# Altium schematic symbol library MCU_ST_STM32F1.SchLib: 178 symbols (part 3 of 5)
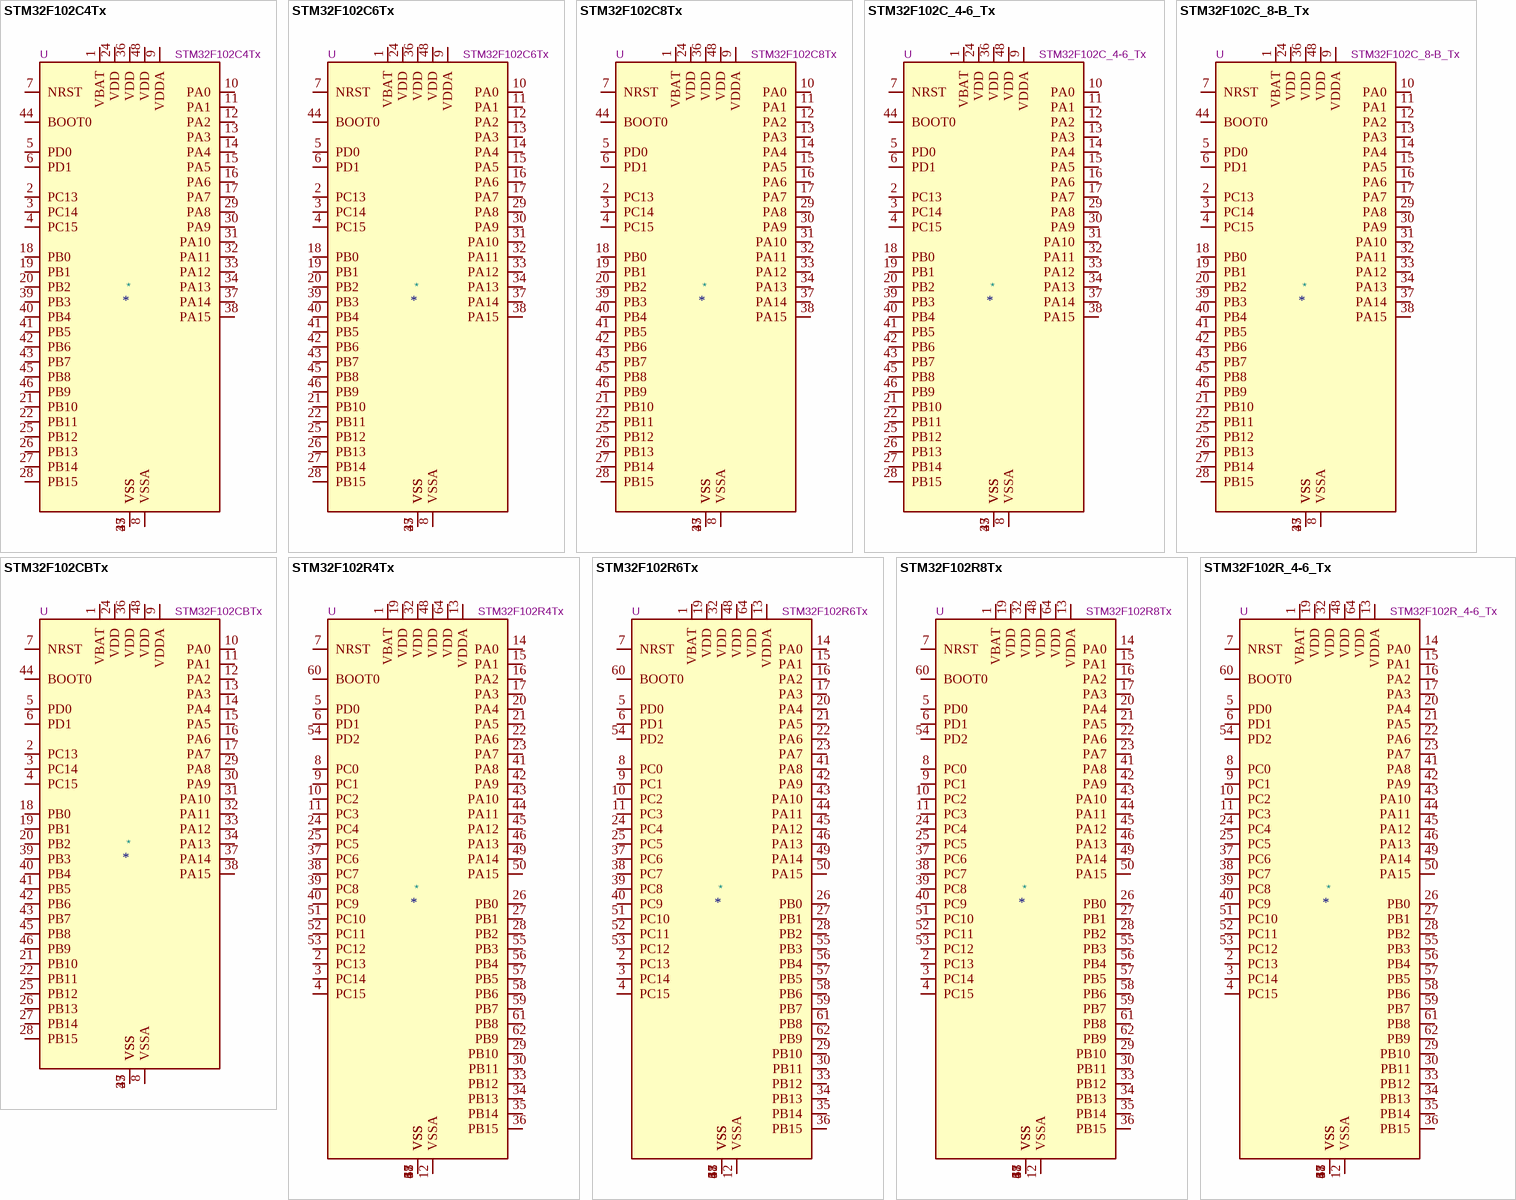
[diagram p32: symbols STM32F102C4Tx to STM32F102R_4-6_Tx]

## STM32F102R_4-6_Tx
designator *  value STM32F102R_4-6_Tx  Reference: U
STMicroelectronics Arm Cortex-M3 MCU, 16-32KB flash, 4-6KB RAM, 48 MHz, 2.0-3.6V, 51 GPIO, LQFP64; ki_keywords: Arm Cortex-M3 STM32F1 STM32F102; ki_fp_filters: LQFP*10x10mm*P0.5mm*; Footprint: Package_QFP:LQFP-64_10x10mm_P0.5mm; Datasheet: https://www.st.com/resource/en/datasheet/stm32f102r4.pdf; Description_: STMicroelectronics Arm Cortex-M3 MCU, 16-32KB flash, 4-6KB RAM, 48 MHz, 2.0-3.6V, 51 GPIO, LQFP64
pins: 1 VBAT, 2 PC13, 3 PC14, 4 PC15, 5 PD0, 6 PD1, 7 NRST, 8 PC0, 9 PC1, 10 PC2, 11 PC3, 12 VSSA, 13 VDDA, 14 PA0, 15 PA1, 16 PA2, 17 PA3, 18 VSS, 19 VDD, 20 PA4, 21 PA5, 22 PA6, 23 PA7, 24 PC4, 25 PC5, 26 PB0, 27 PB1, 28 PB2, 29 PB10, 30 PB11, 31 VSS, 32 VDD, 33 PB12, 34 PB13, 35 PB14, 36 PB15, 37 PC6, 38 PC7, 39 PC8, 40 PC9, 41 PA8, 42 PA9, 43 PA10, 44 PA11, 45 PA12, 46 PA13, 47 VSS, 48 VDD, 49 PA14, 50 PA15, 51 PC10, 52 PC11, 53 PC12, 54 PD2, 55 PB3, 56 PB4, 57 PB5, 58 PB6, 59 PB7, 60 BOOT0, 61 PB8, 62 PB9, 63 VSS, 64 VDD

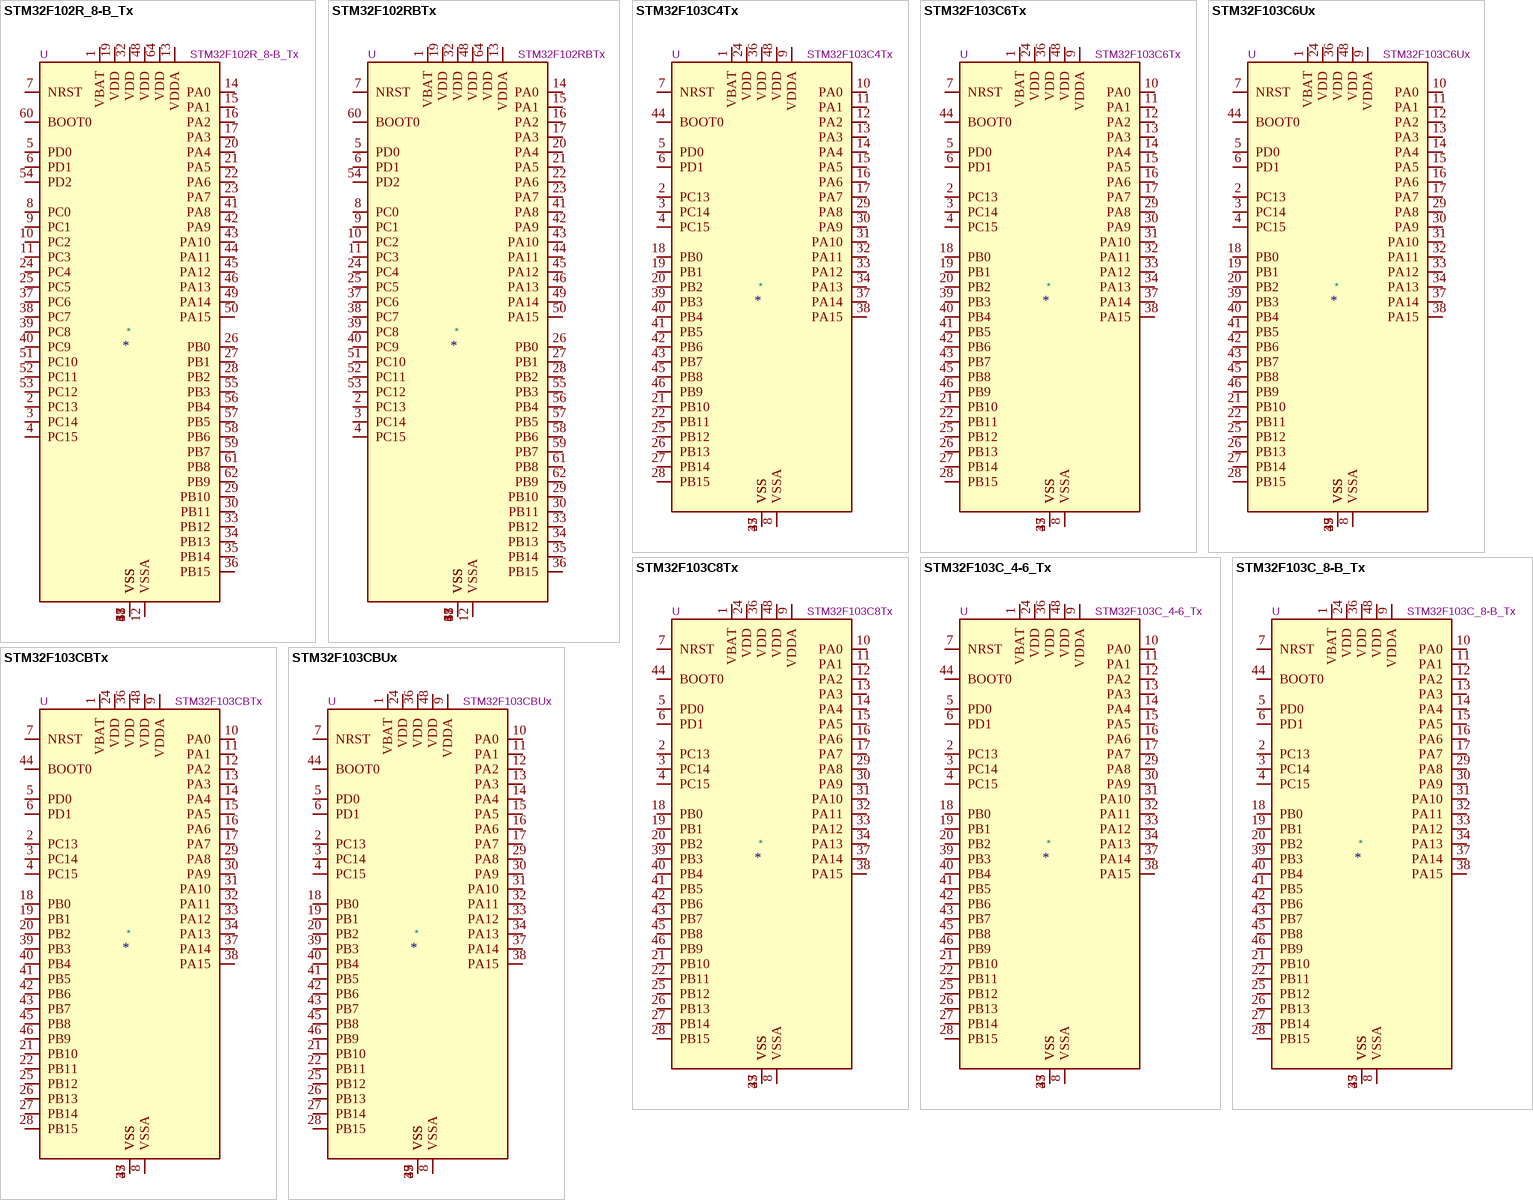
[diagram p14: symbols STM32F102R_8-B_Tx to STM32F103CBUx]

## STM32F102R_8-B_Tx
designator *  value STM32F102R_8-B_Tx  Reference: U
STMicroelectronics Arm Cortex-M3 MCU, 64-128KB flash, 10-16KB RAM, 48 MHz, 2.0-3.6V, 51 GPIO, LQFP64; ki_keywords: Arm Cortex-M3 STM32F1 STM32F102; ki_fp_filters: LQFP*10x10mm*P0.5mm*; Footprint: Package_QFP:LQFP-64_10x10mm_P0.5mm; Datasheet: https://www.st.com/resource/en/datasheet/stm32f102r8.pdf; Description_: STMicroelectronics Arm Cortex-M3 MCU, 64-128KB flash, 10-16KB RAM, 48 MHz, 2.0-3.6V, 51 GPIO, LQFP64
pins: 1 VBAT, 2 PC13, 3 PC14, 4 PC15, 5 PD0, 6 PD1, 7 NRST, 8 PC0, 9 PC1, 10 PC2, 11 PC3, 12 VSSA, 13 VDDA, 14 PA0, 15 PA1, 16 PA2, 17 PA3, 18 VSS, 19 VDD, 20 PA4, 21 PA5, 22 PA6, 23 PA7, 24 PC4, 25 PC5, 26 PB0, 27 PB1, 28 PB2, 29 PB10, 30 PB11, 31 VSS, 32 VDD, 33 PB12, 34 PB13, 35 PB14, 36 PB15, 37 PC6, 38 PC7, 39 PC8, 40 PC9, 41 PA8, 42 PA9, 43 PA10, 44 PA11, 45 PA12, 46 PA13, 47 VSS, 48 VDD, 49 PA14, 50 PA15, 51 PC10, 52 PC11, 53 PC12, 54 PD2, 55 PB3, 56 PB4, 57 PB5, 58 PB6, 59 PB7, 60 BOOT0, 61 PB8, 62 PB9, 63 VSS, 64 VDD

## STM32F102RBTx
designator *  value STM32F102RBTx  Reference: U
STMicroelectronics Arm Cortex-M3 MCU, 128KB flash, 16KB RAM, 48 MHz, 2.0-3.6V, 51 GPIO, LQFP64; ki_keywords: Arm Cortex-M3 STM32F1 STM32F102; ki_fp_filters: LQFP*10x10mm*P0.5mm*; Footprint: Package_QFP:LQFP-64_10x10mm_P0.5mm; Datasheet: https://www.st.com/resource/en/datasheet/stm32f102rb.pdf; Description_: STMicroelectronics Arm Cortex-M3 MCU, 128KB flash, 16KB RAM, 48 MHz, 2.0-3.6V, 51 GPIO, LQFP64
pins: 1 VBAT, 2 PC13, 3 PC14, 4 PC15, 5 PD0, 6 PD1, 7 NRST, 8 PC0, 9 PC1, 10 PC2, 11 PC3, 12 VSSA, 13 VDDA, 14 PA0, 15 PA1, 16 PA2, 17 PA3, 18 VSS, 19 VDD, 20 PA4, 21 PA5, 22 PA6, 23 PA7, 24 PC4, 25 PC5, 26 PB0, 27 PB1, 28 PB2, 29 PB10, 30 PB11, 31 VSS, 32 VDD, 33 PB12, 34 PB13, 35 PB14, 36 PB15, 37 PC6, 38 PC7, 39 PC8, 40 PC9, 41 PA8, 42 PA9, 43 PA10, 44 PA11, 45 PA12, 46 PA13, 47 VSS, 48 VDD, 49 PA14, 50 PA15, 51 PC10, 52 PC11, 53 PC12, 54 PD2, 55 PB3, 56 PB4, 57 PB5, 58 PB6, 59 PB7, 60 BOOT0, 61 PB8, 62 PB9, 63 VSS, 64 VDD

## STM32F103C4Tx
designator *  value STM32F103C4Tx  Reference: U
STMicroelectronics Arm Cortex-M3 MCU, 16KB flash, 6KB RAM, 72 MHz, 2.0-3.6V, 37 GPIO, LQFP48; ki_keywords: Arm Cortex-M3 STM32F1 STM32F103; ki_fp_filters: LQFP*7x7mm*P0.5mm*; Footprint: Package_QFP:LQFP-48_7x7mm_P0.5mm; Datasheet: https://www.st.com/resource/en/datasheet/stm32f103c4.pdf; Description_: STMicroelectronics Arm Cortex-M3 MCU, 16KB flash, 6KB RAM, 72 MHz, 2.0-3.6V, 37 GPIO, LQFP48
pins: 1 VBAT, 2 PC13, 3 PC14, 4 PC15, 5 PD0, 6 PD1, 7 NRST, 8 VSSA, 9 VDDA, 10 PA0, 11 PA1, 12 PA2, 13 PA3, 14 PA4, 15 PA5, 16 PA6, 17 PA7, 18 PB0, 19 PB1, 20 PB2, 21 PB10, 22 PB11, 23 VSS, 24 VDD, 25 PB12, 26 PB13, 27 PB14, 28 PB15, 29 PA8, 30 PA9, 31 PA10, 32 PA11, 33 PA12, 34 PA13, 35 VSS, 36 VDD, 37 PA14, 38 PA15, 39 PB3, 40 PB4, 41 PB5, 42 PB6, 43 PB7, 44 BOOT0, 45 PB8, 46 PB9, 47 VSS, 48 VDD

## STM32F103C6Tx
designator *  value STM32F103C6Tx  Reference: U
STMicroelectronics Arm Cortex-M3 MCU, 32KB flash, 10KB RAM, 72 MHz, 2.0-3.6V, 37 GPIO, LQFP48; ki_keywords: Arm Cortex-M3 STM32F1 STM32F103; ki_fp_filters: LQFP*7x7mm*P0.5mm*; Footprint: Package_QFP:LQFP-48_7x7mm_P0.5mm; Datasheet: https://www.st.com/resource/en/datasheet/stm32f103c6.pdf; Description_: STMicroelectronics Arm Cortex-M3 MCU, 32KB flash, 10KB RAM, 72 MHz, 2.0-3.6V, 37 GPIO, LQFP48
pins: 1 VBAT, 2 PC13, 3 PC14, 4 PC15, 5 PD0, 6 PD1, 7 NRST, 8 VSSA, 9 VDDA, 10 PA0, 11 PA1, 12 PA2, 13 PA3, 14 PA4, 15 PA5, 16 PA6, 17 PA7, 18 PB0, 19 PB1, 20 PB2, 21 PB10, 22 PB11, 23 VSS, 24 VDD, 25 PB12, 26 PB13, 27 PB14, 28 PB15, 29 PA8, 30 PA9, 31 PA10, 32 PA11, 33 PA12, 34 PA13, 35 VSS, 36 VDD, 37 PA14, 38 PA15, 39 PB3, 40 PB4, 41 PB5, 42 PB6, 43 PB7, 44 BOOT0, 45 PB8, 46 PB9, 47 VSS, 48 VDD

## STM32F103C6Ux
designator *  value STM32F103C6Ux  Reference: U
STMicroelectronics Arm Cortex-M3 MCU, 32KB flash, 10KB RAM, 72 MHz, 2.0-3.6V, 37 GPIO, UFQFPN48; ki_keywords: Arm Cortex-M3 STM32F1 STM32F103; ki_fp_filters: QFN*1EP*7x7mm*P0.5mm*; Footprint: Package_DFN_QFN:QFN-48-1EP_7x7mm_P0.5mm_EP5.6x5.6mm; Datasheet: https://www.st.com/resource/en/datasheet/stm32f103c6.pdf; Description_: STMicroelectronics Arm Cortex-M3 MCU, 32KB flash, 10KB RAM, 72 MHz, 2.0-3.6V, 37 GPIO, UFQFPN48
pins: 1 VBAT, 2 PC13, 3 PC14, 4 PC15, 5 PD0, 6 PD1, 7 NRST, 8 VSSA, 9 VDDA, 10 PA0, 11 PA1, 12 PA2, 13 PA3, 14 PA4, 15 PA5, 16 PA6, 17 PA7, 18 PB0, 19 PB1, 20 PB2, 21 PB10, 22 PB11, 23 VSS, 24 VDD, 25 PB12, 26 PB13, 27 PB14, 28 PB15, 29 PA8, 30 PA9, 31 PA10, 32 PA11, 33 PA12, 34 PA13, 35 VSS, 36 VDD, 37 PA14, 38 PA15, 39 PB3, 40 PB4, 41 PB5, 42 PB6, 43 PB7, 44 BOOT0, 45 PB8, 46 PB9, 47 VSS, 48 VDD, 49 VSS

## STM32F103C8Tx
designator *  value STM32F103C8Tx  Reference: U
STMicroelectronics Arm Cortex-M3 MCU, 64KB flash, 20KB RAM, 72 MHz, 2.0-3.6V, 37 GPIO, LQFP48; ki_keywords: Arm Cortex-M3 STM32F1 STM32F103; ki_fp_filters: LQFP*7x7mm*P0.5mm*; Footprint: Package_QFP:LQFP-48_7x7mm_P0.5mm; Datasheet: https://www.st.com/resource/en/datasheet/stm32f103c8.pdf; Description_: STMicroelectronics Arm Cortex-M3 MCU, 64KB flash, 20KB RAM, 72 MHz, 2.0-3.6V, 37 GPIO, LQFP48
pins: 1 VBAT, 2 PC13, 3 PC14, 4 PC15, 5 PD0, 6 PD1, 7 NRST, 8 VSSA, 9 VDDA, 10 PA0, 11 PA1, 12 PA2, 13 PA3, 14 PA4, 15 PA5, 16 PA6, 17 PA7, 18 PB0, 19 PB1, 20 PB2, 21 PB10, 22 PB11, 23 VSS, 24 VDD, 25 PB12, 26 PB13, 27 PB14, 28 PB15, 29 PA8, 30 PA9, 31 PA10, 32 PA11, 33 PA12, 34 PA13, 35 VSS, 36 VDD, 37 PA14, 38 PA15, 39 PB3, 40 PB4, 41 PB5, 42 PB6, 43 PB7, 44 BOOT0, 45 PB8, 46 PB9, 47 VSS, 48 VDD

## STM32F103C_4-6_Tx
designator *  value STM32F103C_4-6_Tx  Reference: U
STMicroelectronics Arm Cortex-M3 MCU, 16-32KB flash, 6-10KB RAM, 72 MHz, 2.0-3.6V, 37 GPIO, LQFP48; ki_keywords: Arm Cortex-M3 STM32F1 STM32F103; ki_fp_filters: LQFP*7x7mm*P0.5mm*; Footprint: Package_QFP:LQFP-48_7x7mm_P0.5mm; Datasheet: https://www.st.com/resource/en/datasheet/stm32f103c4.pdf; Description_: STMicroelectronics Arm Cortex-M3 MCU, 16-32KB flash, 6-10KB RAM, 72 MHz, 2.0-3.6V, 37 GPIO, LQFP48
pins: 1 VBAT, 2 PC13, 3 PC14, 4 PC15, 5 PD0, 6 PD1, 7 NRST, 8 VSSA, 9 VDDA, 10 PA0, 11 PA1, 12 PA2, 13 PA3, 14 PA4, 15 PA5, 16 PA6, 17 PA7, 18 PB0, 19 PB1, 20 PB2, 21 PB10, 22 PB11, 23 VSS, 24 VDD, 25 PB12, 26 PB13, 27 PB14, 28 PB15, 29 PA8, 30 PA9, 31 PA10, 32 PA11, 33 PA12, 34 PA13, 35 VSS, 36 VDD, 37 PA14, 38 PA15, 39 PB3, 40 PB4, 41 PB5, 42 PB6, 43 PB7, 44 BOOT0, 45 PB8, 46 PB9, 47 VSS, 48 VDD

## STM32F103C_8-B_Tx
designator *  value STM32F103C_8-B_Tx  Reference: U
STMicroelectronics Arm Cortex-M3 MCU, 64-128KB flash, 20KB RAM, 72 MHz, 2.0-3.6V, 37 GPIO, LQFP48; ki_keywords: Arm Cortex-M3 STM32F1 STM32F103; ki_fp_filters: LQFP*7x7mm*P0.5mm*; Footprint: Package_QFP:LQFP-48_7x7mm_P0.5mm; Datasheet: https://www.st.com/resource/en/datasheet/stm32f103c8.pdf; Description_: STMicroelectronics Arm Cortex-M3 MCU, 64-128KB flash, 20KB RAM, 72 MHz, 2.0-3.6V, 37 GPIO, LQFP48
pins: 1 VBAT, 2 PC13, 3 PC14, 4 PC15, 5 PD0, 6 PD1, 7 NRST, 8 VSSA, 9 VDDA, 10 PA0, 11 PA1, 12 PA2, 13 PA3, 14 PA4, 15 PA5, 16 PA6, 17 PA7, 18 PB0, 19 PB1, 20 PB2, 21 PB10, 22 PB11, 23 VSS, 24 VDD, 25 PB12, 26 PB13, 27 PB14, 28 PB15, 29 PA8, 30 PA9, 31 PA10, 32 PA11, 33 PA12, 34 PA13, 35 VSS, 36 VDD, 37 PA14, 38 PA15, 39 PB3, 40 PB4, 41 PB5, 42 PB6, 43 PB7, 44 BOOT0, 45 PB8, 46 PB9, 47 VSS, 48 VDD

## STM32F103CBTx
designator *  value STM32F103CBTx  Reference: U
STMicroelectronics Arm Cortex-M3 MCU, 128KB flash, 20KB RAM, 72 MHz, 2.0-3.6V, 37 GPIO, LQFP48; ki_keywords: Arm Cortex-M3 STM32F1 STM32F103; ki_fp_filters: LQFP*7x7mm*P0.5mm*; Footprint: Package_QFP:LQFP-48_7x7mm_P0.5mm; Datasheet: https://www.st.com/resource/en/datasheet/stm32f103cb.pdf; Description_: STMicroelectronics Arm Cortex-M3 MCU, 128KB flash, 20KB RAM, 72 MHz, 2.0-3.6V, 37 GPIO, LQFP48
pins: 1 VBAT, 2 PC13, 3 PC14, 4 PC15, 5 PD0, 6 PD1, 7 NRST, 8 VSSA, 9 VDDA, 10 PA0, 11 PA1, 12 PA2, 13 PA3, 14 PA4, 15 PA5, 16 PA6, 17 PA7, 18 PB0, 19 PB1, 20 PB2, 21 PB10, 22 PB11, 23 VSS, 24 VDD, 25 PB12, 26 PB13, 27 PB14, 28 PB15, 29 PA8, 30 PA9, 31 PA10, 32 PA11, 33 PA12, 34 PA13, 35 VSS, 36 VDD, 37 PA14, 38 PA15, 39 PB3, 40 PB4, 41 PB5, 42 PB6, 43 PB7, 44 BOOT0, 45 PB8, 46 PB9, 47 VSS, 48 VDD

## STM32F103CBUx
designator *  value STM32F103CBUx  Reference: U
STMicroelectronics Arm Cortex-M3 MCU, 128KB flash, 20KB RAM, 72 MHz, 2.0-3.6V, 37 GPIO, UFQFPN48; ki_keywords: Arm Cortex-M3 STM32F1 STM32F103; ki_fp_filters: QFN*1EP*7x7mm*P0.5mm*; Footprint: Package_DFN_QFN:QFN-48-1EP_7x7mm_P0.5mm_EP5.6x5.6mm; Datasheet: https://www.st.com/resource/en/datasheet/stm32f103cb.pdf; Description_: STMicroelectronics Arm Cortex-M3 MCU, 128KB flash, 20KB RAM, 72 MHz, 2.0-3.6V, 37 GPIO, UFQFPN48
pins: 1 VBAT, 2 PC13, 3 PC14, 4 PC15, 5 PD0, 6 PD1, 7 NRST, 8 VSSA, 9 VDDA, 10 PA0, 11 PA1, 12 PA2, 13 PA3, 14 PA4, 15 PA5, 16 PA6, 17 PA7, 18 PB0, 19 PB1, 20 PB2, 21 PB10, 22 PB11, 23 VSS, 24 VDD, 25 PB12, 26 PB13, 27 PB14, 28 PB15, 29 PA8, 30 PA9, 31 PA10, 32 PA11, 33 PA12, 34 PA13, 35 VSS, 36 VDD, 37 PA14, 38 PA15, 39 PB3, 40 PB4, 41 PB5, 42 PB6, 43 PB7, 44 BOOT0, 45 PB8, 46 PB9, 47 VSS, 48 VDD, 49 VSS

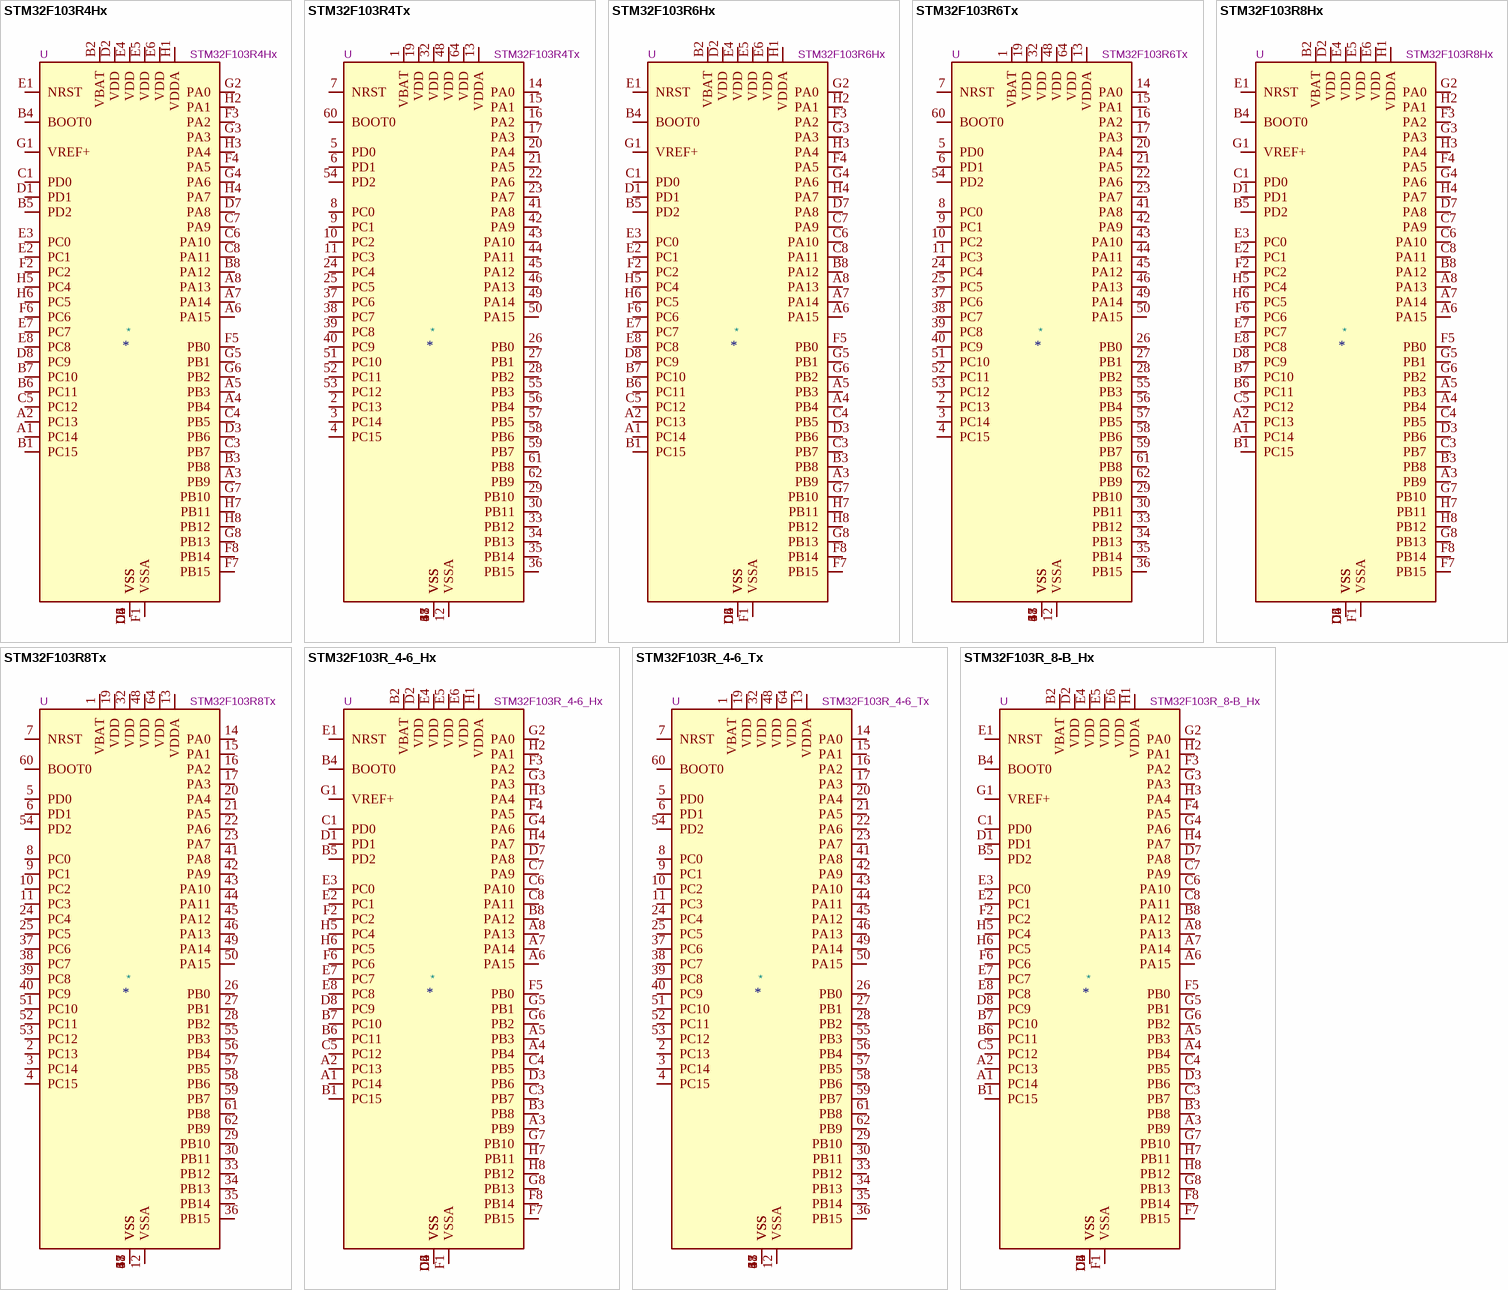
[diagram p15: symbols STM32F103R4Hx to STM32F103R_8-B_Hx]

## STM32F103R4Hx
designator *  value STM32F103R4Hx  Reference: U
STMicroelectronics Arm Cortex-M3 MCU, 16KB flash, 6KB RAM, 72 MHz, 2.0-3.6V, 50 GPIO, TFBGA64; ki_keywords: Arm Cortex-M3 STM32F1 STM32F103; ki_fp_filters: TFBGA*5x5mm*Layout8x8*P0.5mm*; Footprint: Package_BGA:TFBGA-64_5x5mm_Layout8x8_P0.5mm; Datasheet: https://www.st.com/resource/en/datasheet/stm32f103r4.pdf; Description_: STMicroelectronics Arm Cortex-M3 MCU, 16KB flash, 6KB RAM, 72 MHz, 2.0-3.6V, 50 GPIO, TFBGA64
pins: A1 PC14, A2 PC13, A3 PB9, A4 PB4, A5 PB3, A6 PA15, A7 PA14, A8 PA13, B1 PC15, B2 VBAT, B3 PB8, B4 BOOT0, B5 PD2, B6 PC11, B7 PC10, B8 PA12, C1 PD0, C2 VSS, C3 PB7, C4 PB5, C5 PC12, C6 PA10, C7 PA9, C8 PA11, D1 PD1, D2 VDD, D3 PB6, D4 VSS, D5 VSS, D6 VSS, D7 PA8, D8 PC9, E1 NRST, E2 PC1, E3 PC0, E4 VDD, E5 VDD, E6 VDD, E7 PC7, E8 PC8, F1 VSSA, F2 PC2, F3 PA2, F4 PA5, F5 PB0, F6 PC6, F7 PB15, F8 PB14, G1 VREF+, G2 PA0, G3 PA3, G4 PA6, G5 PB1, G6 PB2, G7 PB10, G8 PB13, H1 VDDA, H2 PA1, H3 PA4, H4 PA7, H5 PC4, H6 PC5, H7 PB11, H8 PB12

## STM32F103R4Tx
designator *  value STM32F103R4Tx  Reference: U
STMicroelectronics Arm Cortex-M3 MCU, 16KB flash, 6KB RAM, 72 MHz, 2.0-3.6V, 51 GPIO, LQFP64; ki_keywords: Arm Cortex-M3 STM32F1 STM32F103; ki_fp_filters: LQFP*10x10mm*P0.5mm*; Footprint: Package_QFP:LQFP-64_10x10mm_P0.5mm; Datasheet: https://www.st.com/resource/en/datasheet/stm32f103r4.pdf; Description_: STMicroelectronics Arm Cortex-M3 MCU, 16KB flash, 6KB RAM, 72 MHz, 2.0-3.6V, 51 GPIO, LQFP64
pins: 1 VBAT, 2 PC13, 3 PC14, 4 PC15, 5 PD0, 6 PD1, 7 NRST, 8 PC0, 9 PC1, 10 PC2, 11 PC3, 12 VSSA, 13 VDDA, 14 PA0, 15 PA1, 16 PA2, 17 PA3, 18 VSS, 19 VDD, 20 PA4, 21 PA5, 22 PA6, 23 PA7, 24 PC4, 25 PC5, 26 PB0, 27 PB1, 28 PB2, 29 PB10, 30 PB11, 31 VSS, 32 VDD, 33 PB12, 34 PB13, 35 PB14, 36 PB15, 37 PC6, 38 PC7, 39 PC8, 40 PC9, 41 PA8, 42 PA9, 43 PA10, 44 PA11, 45 PA12, 46 PA13, 47 VSS, 48 VDD, 49 PA14, 50 PA15, 51 PC10, 52 PC11, 53 PC12, 54 PD2, 55 PB3, 56 PB4, 57 PB5, 58 PB6, 59 PB7, 60 BOOT0, 61 PB8, 62 PB9, 63 VSS, 64 VDD

## STM32F103R6Hx
designator *  value STM32F103R6Hx  Reference: U
STMicroelectronics Arm Cortex-M3 MCU, 32KB flash, 10KB RAM, 72 MHz, 2.0-3.6V, 50 GPIO, TFBGA64; ki_keywords: Arm Cortex-M3 STM32F1 STM32F103; ki_fp_filters: TFBGA*5x5mm*Layout8x8*P0.5mm*; Footprint: Package_BGA:TFBGA-64_5x5mm_Layout8x8_P0.5mm; Datasheet: https://www.st.com/resource/en/datasheet/stm32f103r6.pdf; Description_: STMicroelectronics Arm Cortex-M3 MCU, 32KB flash, 10KB RAM, 72 MHz, 2.0-3.6V, 50 GPIO, TFBGA64
pins: A1 PC14, A2 PC13, A3 PB9, A4 PB4, A5 PB3, A6 PA15, A7 PA14, A8 PA13, B1 PC15, B2 VBAT, B3 PB8, B4 BOOT0, B5 PD2, B6 PC11, B7 PC10, B8 PA12, C1 PD0, C2 VSS, C3 PB7, C4 PB5, C5 PC12, C6 PA10, C7 PA9, C8 PA11, D1 PD1, D2 VDD, D3 PB6, D4 VSS, D5 VSS, D6 VSS, D7 PA8, D8 PC9, E1 NRST, E2 PC1, E3 PC0, E4 VDD, E5 VDD, E6 VDD, E7 PC7, E8 PC8, F1 VSSA, F2 PC2, F3 PA2, F4 PA5, F5 PB0, F6 PC6, F7 PB15, F8 PB14, G1 VREF+, G2 PA0, G3 PA3, G4 PA6, G5 PB1, G6 PB2, G7 PB10, G8 PB13, H1 VDDA, H2 PA1, H3 PA4, H4 PA7, H5 PC4, H6 PC5, H7 PB11, H8 PB12

## STM32F103R6Tx
designator *  value STM32F103R6Tx  Reference: U
STMicroelectronics Arm Cortex-M3 MCU, 32KB flash, 10KB RAM, 72 MHz, 2.0-3.6V, 51 GPIO, LQFP64; ki_keywords: Arm Cortex-M3 STM32F1 STM32F103; ki_fp_filters: LQFP*10x10mm*P0.5mm*; Footprint: Package_QFP:LQFP-64_10x10mm_P0.5mm; Datasheet: https://www.st.com/resource/en/datasheet/stm32f103r6.pdf; Description_: STMicroelectronics Arm Cortex-M3 MCU, 32KB flash, 10KB RAM, 72 MHz, 2.0-3.6V, 51 GPIO, LQFP64
pins: 1 VBAT, 2 PC13, 3 PC14, 4 PC15, 5 PD0, 6 PD1, 7 NRST, 8 PC0, 9 PC1, 10 PC2, 11 PC3, 12 VSSA, 13 VDDA, 14 PA0, 15 PA1, 16 PA2, 17 PA3, 18 VSS, 19 VDD, 20 PA4, 21 PA5, 22 PA6, 23 PA7, 24 PC4, 25 PC5, 26 PB0, 27 PB1, 28 PB2, 29 PB10, 30 PB11, 31 VSS, 32 VDD, 33 PB12, 34 PB13, 35 PB14, 36 PB15, 37 PC6, 38 PC7, 39 PC8, 40 PC9, 41 PA8, 42 PA9, 43 PA10, 44 PA11, 45 PA12, 46 PA13, 47 VSS, 48 VDD, 49 PA14, 50 PA15, 51 PC10, 52 PC11, 53 PC12, 54 PD2, 55 PB3, 56 PB4, 57 PB5, 58 PB6, 59 PB7, 60 BOOT0, 61 PB8, 62 PB9, 63 VSS, 64 VDD

## STM32F103R8Hx
designator *  value STM32F103R8Hx  Reference: U
STMicroelectronics Arm Cortex-M3 MCU, 64KB flash, 20KB RAM, 72 MHz, 2.0-3.6V, 50 GPIO, TFBGA64; ki_keywords: Arm Cortex-M3 STM32F1 STM32F103; ki_fp_filters: TFBGA*5x5mm*Layout8x8*P0.5mm*; Footprint: Package_BGA:TFBGA-64_5x5mm_Layout8x8_P0.5mm; Datasheet: https://www.st.com/resource/en/datasheet/stm32f103r8.pdf; Description_: STMicroelectronics Arm Cortex-M3 MCU, 64KB flash, 20KB RAM, 72 MHz, 2.0-3.6V, 50 GPIO, TFBGA64
pins: A1 PC14, A2 PC13, A3 PB9, A4 PB4, A5 PB3, A6 PA15, A7 PA14, A8 PA13, B1 PC15, B2 VBAT, B3 PB8, B4 BOOT0, B5 PD2, B6 PC11, B7 PC10, B8 PA12, C1 PD0, C2 VSS, C3 PB7, C4 PB5, C5 PC12, C6 PA10, C7 PA9, C8 PA11, D1 PD1, D2 VDD, D3 PB6, D4 VSS, D5 VSS, D6 VSS, D7 PA8, D8 PC9, E1 NRST, E2 PC1, E3 PC0, E4 VDD, E5 VDD, E6 VDD, E7 PC7, E8 PC8, F1 VSSA, F2 PC2, F3 PA2, F4 PA5, F5 PB0, F6 PC6, F7 PB15, F8 PB14, G1 VREF+, G2 PA0, G3 PA3, G4 PA6, G5 PB1, G6 PB2, G7 PB10, G8 PB13, H1 VDDA, H2 PA1, H3 PA4, H4 PA7, H5 PC4, H6 PC5, H7 PB11, H8 PB12

## STM32F103R8Tx
designator *  value STM32F103R8Tx  Reference: U
STMicroelectronics Arm Cortex-M3 MCU, 64KB flash, 20KB RAM, 72 MHz, 2.0-3.6V, 51 GPIO, LQFP64; ki_keywords: Arm Cortex-M3 STM32F1 STM32F103; ki_fp_filters: LQFP*10x10mm*P0.5mm*; Footprint: Package_QFP:LQFP-64_10x10mm_P0.5mm; Datasheet: https://www.st.com/resource/en/datasheet/stm32f103r8.pdf; Description_: STMicroelectronics Arm Cortex-M3 MCU, 64KB flash, 20KB RAM, 72 MHz, 2.0-3.6V, 51 GPIO, LQFP64
pins: 1 VBAT, 2 PC13, 3 PC14, 4 PC15, 5 PD0, 6 PD1, 7 NRST, 8 PC0, 9 PC1, 10 PC2, 11 PC3, 12 VSSA, 13 VDDA, 14 PA0, 15 PA1, 16 PA2, 17 PA3, 18 VSS, 19 VDD, 20 PA4, 21 PA5, 22 PA6, 23 PA7, 24 PC4, 25 PC5, 26 PB0, 27 PB1, 28 PB2, 29 PB10, 30 PB11, 31 VSS, 32 VDD, 33 PB12, 34 PB13, 35 PB14, 36 PB15, 37 PC6, 38 PC7, 39 PC8, 40 PC9, 41 PA8, 42 PA9, 43 PA10, 44 PA11, 45 PA12, 46 PA13, 47 VSS, 48 VDD, 49 PA14, 50 PA15, 51 PC10, 52 PC11, 53 PC12, 54 PD2, 55 PB3, 56 PB4, 57 PB5, 58 PB6, 59 PB7, 60 BOOT0, 61 PB8, 62 PB9, 63 VSS, 64 VDD

## STM32F103R_4-6_Hx
designator *  value STM32F103R_4-6_Hx  Reference: U
STMicroelectronics Arm Cortex-M3 MCU, 16-32KB flash, 6-10KB RAM, 72 MHz, 2.0-3.6V, 50 GPIO, TFBGA64; ki_keywords: Arm Cortex-M3 STM32F1 STM32F103; ki_fp_filters: TFBGA*5x5mm*Layout8x8*P0.5mm*; Footprint: Package_BGA:TFBGA-64_5x5mm_Layout8x8_P0.5mm; Datasheet: https://www.st.com/resource/en/datasheet/stm32f103r4.pdf; Description_: STMicroelectronics Arm Cortex-M3 MCU, 16-32KB flash, 6-10KB RAM, 72 MHz, 2.0-3.6V, 50 GPIO, TFBGA64
pins: A1 PC14, A2 PC13, A3 PB9, A4 PB4, A5 PB3, A6 PA15, A7 PA14, A8 PA13, B1 PC15, B2 VBAT, B3 PB8, B4 BOOT0, B5 PD2, B6 PC11, B7 PC10, B8 PA12, C1 PD0, C2 VSS, C3 PB7, C4 PB5, C5 PC12, C6 PA10, C7 PA9, C8 PA11, D1 PD1, D2 VDD, D3 PB6, D4 VSS, D5 VSS, D6 VSS, D7 PA8, D8 PC9, E1 NRST, E2 PC1, E3 PC0, E4 VDD, E5 VDD, E6 VDD, E7 PC7, E8 PC8, F1 VSSA, F2 PC2, F3 PA2, F4 PA5, F5 PB0, F6 PC6, F7 PB15, F8 PB14, G1 VREF+, G2 PA0, G3 PA3, G4 PA6, G5 PB1, G6 PB2, G7 PB10, G8 PB13, H1 VDDA, H2 PA1, H3 PA4, H4 PA7, H5 PC4, H6 PC5, H7 PB11, H8 PB12

## STM32F103R_4-6_Tx
designator *  value STM32F103R_4-6_Tx  Reference: U
STMicroelectronics Arm Cortex-M3 MCU, 16-32KB flash, 6-10KB RAM, 72 MHz, 2.0-3.6V, 51 GPIO, LQFP64; ki_keywords: Arm Cortex-M3 STM32F1 STM32F103; ki_fp_filters: LQFP*10x10mm*P0.5mm*; Footprint: Package_QFP:LQFP-64_10x10mm_P0.5mm; Datasheet: https://www.st.com/resource/en/datasheet/stm32f103r4.pdf; Description_: STMicroelectronics Arm Cortex-M3 MCU, 16-32KB flash, 6-10KB RAM, 72 MHz, 2.0-3.6V, 51 GPIO, LQFP64
pins: 1 VBAT, 2 PC13, 3 PC14, 4 PC15, 5 PD0, 6 PD1, 7 NRST, 8 PC0, 9 PC1, 10 PC2, 11 PC3, 12 VSSA, 13 VDDA, 14 PA0, 15 PA1, 16 PA2, 17 PA3, 18 VSS, 19 VDD, 20 PA4, 21 PA5, 22 PA6, 23 PA7, 24 PC4, 25 PC5, 26 PB0, 27 PB1, 28 PB2, 29 PB10, 30 PB11, 31 VSS, 32 VDD, 33 PB12, 34 PB13, 35 PB14, 36 PB15, 37 PC6, 38 PC7, 39 PC8, 40 PC9, 41 PA8, 42 PA9, 43 PA10, 44 PA11, 45 PA12, 46 PA13, 47 VSS, 48 VDD, 49 PA14, 50 PA15, 51 PC10, 52 PC11, 53 PC12, 54 PD2, 55 PB3, 56 PB4, 57 PB5, 58 PB6, 59 PB7, 60 BOOT0, 61 PB8, 62 PB9, 63 VSS, 64 VDD

## STM32F103R_8-B_Hx
designator *  value STM32F103R_8-B_Hx  Reference: U
STMicroelectronics Arm Cortex-M3 MCU, 64-128KB flash, 20KB RAM, 72 MHz, 2.0-3.6V, 50 GPIO, TFBGA64; ki_keywords: Arm Cortex-M3 STM32F1 STM32F103; ki_fp_filters: TFBGA*5x5mm*Layout8x8*P0.5mm*; Footprint: Package_BGA:TFBGA-64_5x5mm_Layout8x8_P0.5mm; Datasheet: https://www.st.com/resource/en/datasheet/stm32f103r8.pdf; Description_: STMicroelectronics Arm Cortex-M3 MCU, 64-128KB flash, 20KB RAM, 72 MHz, 2.0-3.6V, 50 GPIO, TFBGA64
pins: A1 PC14, A2 PC13, A3 PB9, A4 PB4, A5 PB3, A6 PA15, A7 PA14, A8 PA13, B1 PC15, B2 VBAT, B3 PB8, B4 BOOT0, B5 PD2, B6 PC11, B7 PC10, B8 PA12, C1 PD0, C2 VSS, C3 PB7, C4 PB5, C5 PC12, C6 PA10, C7 PA9, C8 PA11, D1 PD1, D2 VDD, D3 PB6, D4 VSS, D5 VSS, D6 VSS, D7 PA8, D8 PC9, E1 NRST, E2 PC1, E3 PC0, E4 VDD, E5 VDD, E6 VDD, E7 PC7, E8 PC8, F1 VSSA, F2 PC2, F3 PA2, F4 PA5, F5 PB0, F6 PC6, F7 PB15, F8 PB14, G1 VREF+, G2 PA0, G3 PA3, G4 PA6, G5 PB1, G6 PB2, G7 PB10, G8 PB13, H1 VDDA, H2 PA1, H3 PA4, H4 PA7, H5 PC4, H6 PC5, H7 PB11, H8 PB12

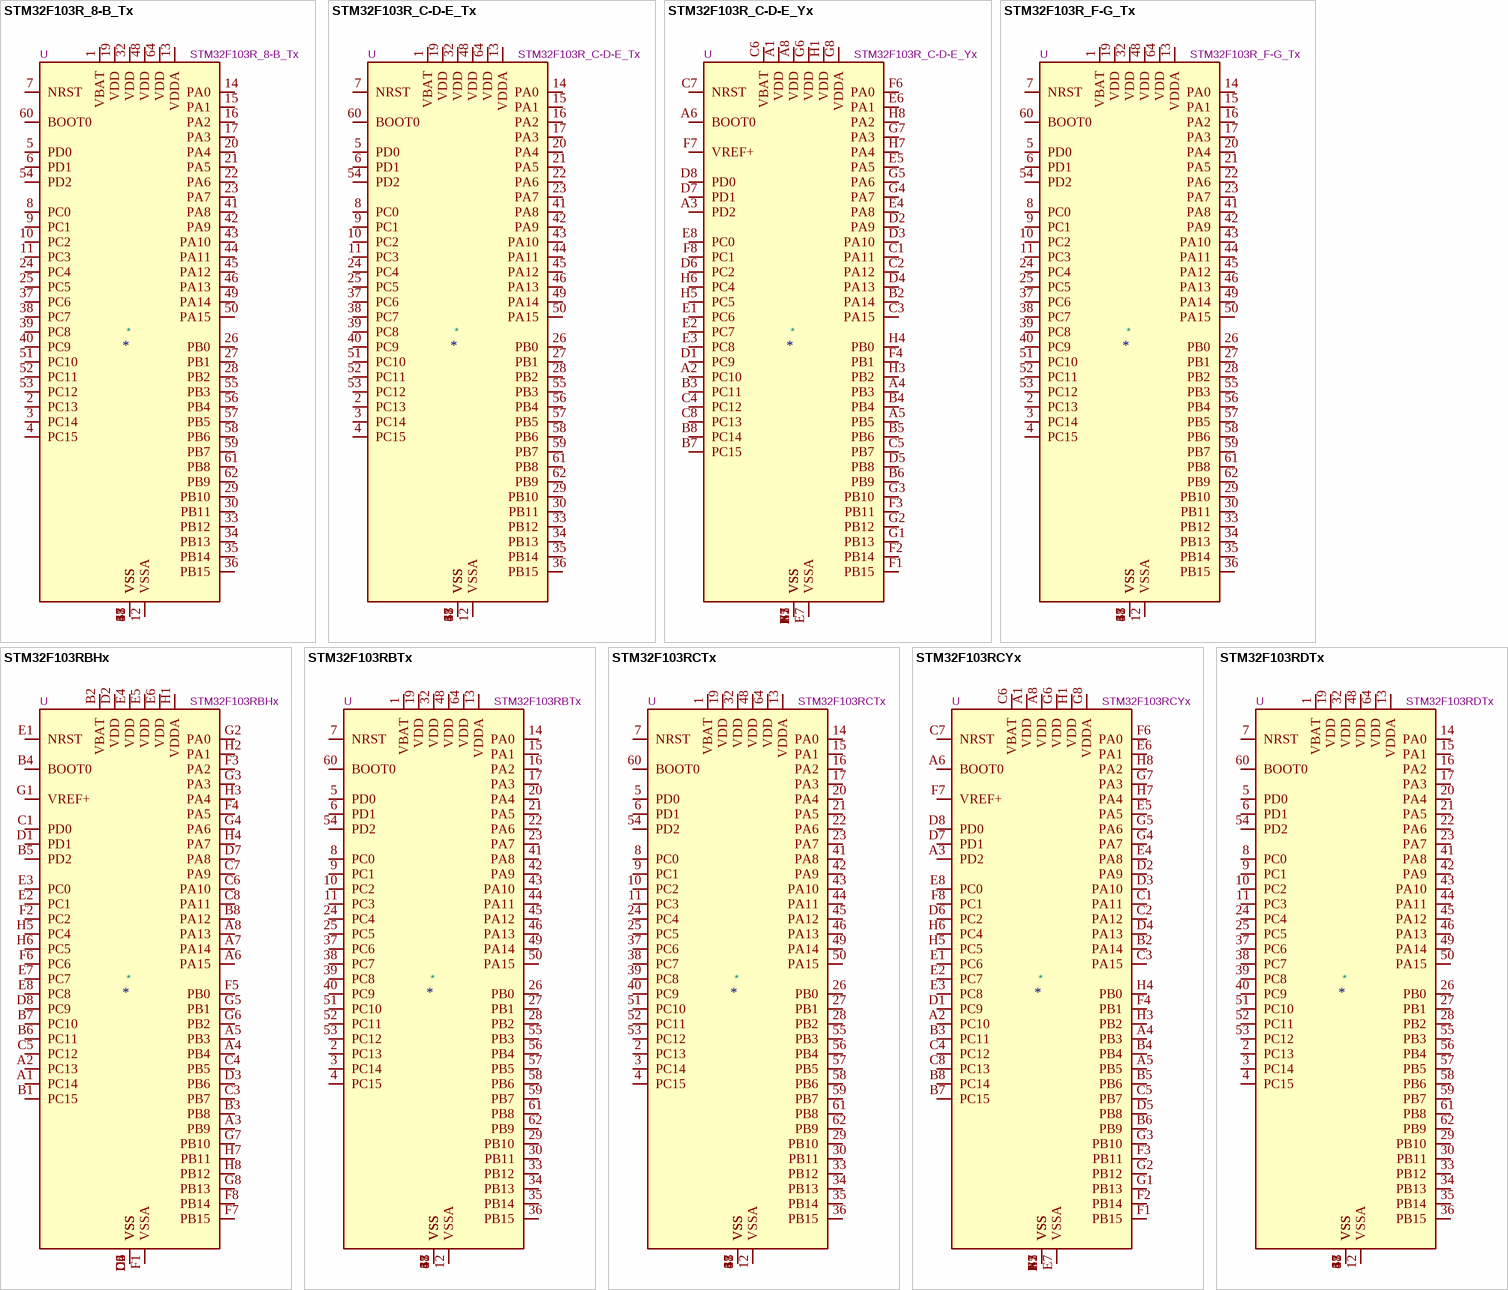
[diagram p16: symbols STM32F103R_8-B_Tx to STM32F103RDTx]

## STM32F103R_8-B_Tx
designator *  value STM32F103R_8-B_Tx  Reference: U
STMicroelectronics Arm Cortex-M3 MCU, 64-128KB flash, 20KB RAM, 72 MHz, 2.0-3.6V, 51 GPIO, LQFP64; ki_keywords: Arm Cortex-M3 STM32F1 STM32F103; ki_fp_filters: LQFP*10x10mm*P0.5mm*; Footprint: Package_QFP:LQFP-64_10x10mm_P0.5mm; Datasheet: https://www.st.com/resource/en/datasheet/stm32f103r8.pdf; Description_: STMicroelectronics Arm Cortex-M3 MCU, 64-128KB flash, 20KB RAM, 72 MHz, 2.0-3.6V, 51 GPIO, LQFP64
pins: 1 VBAT, 2 PC13, 3 PC14, 4 PC15, 5 PD0, 6 PD1, 7 NRST, 8 PC0, 9 PC1, 10 PC2, 11 PC3, 12 VSSA, 13 VDDA, 14 PA0, 15 PA1, 16 PA2, 17 PA3, 18 VSS, 19 VDD, 20 PA4, 21 PA5, 22 PA6, 23 PA7, 24 PC4, 25 PC5, 26 PB0, 27 PB1, 28 PB2, 29 PB10, 30 PB11, 31 VSS, 32 VDD, 33 PB12, 34 PB13, 35 PB14, 36 PB15, 37 PC6, 38 PC7, 39 PC8, 40 PC9, 41 PA8, 42 PA9, 43 PA10, 44 PA11, 45 PA12, 46 PA13, 47 VSS, 48 VDD, 49 PA14, 50 PA15, 51 PC10, 52 PC11, 53 PC12, 54 PD2, 55 PB3, 56 PB4, 57 PB5, 58 PB6, 59 PB7, 60 BOOT0, 61 PB8, 62 PB9, 63 VSS, 64 VDD

## STM32F103R_C-D-E_Tx
designator *  value STM32F103R_C-D-E_Tx  Reference: U
STMicroelectronics Arm Cortex-M3 MCU, 256-512KB flash, 48-64KB RAM, 72 MHz, 2.0-3.6V, 51 GPIO, LQFP64; ki_keywords: Arm Cortex-M3 STM32F1 STM32F103; ki_fp_filters: LQFP*10x10mm*P0.5mm*; Footprint: Package_QFP:LQFP-64_10x10mm_P0.5mm; Datasheet: https://www.st.com/resource/en/datasheet/stm32f103rc.pdf; Description_: STMicroelectronics Arm Cortex-M3 MCU, 256-512KB flash, 48-64KB RAM, 72 MHz, 2.0-3.6V, 51 GPIO, LQFP64
pins: 1 VBAT, 2 PC13, 3 PC14, 4 PC15, 5 PD0, 6 PD1, 7 NRST, 8 PC0, 9 PC1, 10 PC2, 11 PC3, 12 VSSA, 13 VDDA, 14 PA0, 15 PA1, 16 PA2, 17 PA3, 18 VSS, 19 VDD, 20 PA4, 21 PA5, 22 PA6, 23 PA7, 24 PC4, 25 PC5, 26 PB0, 27 PB1, 28 PB2, 29 PB10, 30 PB11, 31 VSS, 32 VDD, 33 PB12, 34 PB13, 35 PB14, 36 PB15, 37 PC6, 38 PC7, 39 PC8, 40 PC9, 41 PA8, 42 PA9, 43 PA10, 44 PA11, 45 PA12, 46 PA13, 47 VSS, 48 VDD, 49 PA14, 50 PA15, 51 PC10, 52 PC11, 53 PC12, 54 PD2, 55 PB3, 56 PB4, 57 PB5, 58 PB6, 59 PB7, 60 BOOT0, 61 PB8, 62 PB9, 63 VSS, 64 VDD

## STM32F103R_C-D-E_Yx
designator *  value STM32F103R_C-D-E_Yx  Reference: U
STMicroelectronics Arm Cortex-M3 MCU, 256-512KB flash, 48-64KB RAM, 72 MHz, 2.0-3.6V, 50 GPIO, WLCSP64; ki_keywords: Arm Cortex-M3 STM32F1 STM32F103; ki_fp_filters: ST*WLCSP*Die414*; Footprint: Package_CSP:ST_WLCSP-64_Die414; Datasheet: https://www.st.com/resource/en/datasheet/stm32f103rc.pdf; Description_: STMicroelectronics Arm Cortex-M3 MCU, 256-512KB flash, 48-64KB RAM, 72 MHz, 2.0-3.6V, 50 GPIO, WLCSP64
pins: A1 VDD, A2 PC10, A3 PD2, A4 PB3, A5 PB5, A6 BOOT0, A7 VSS, A8 VDD, B1 VSS, B2 PA14, B3 PC11, B4 PB4, B5 PB6, B6 PB9, B7 PC15, B8 PC14, C1 PA11, C2 PA12, C3 PA15, C4 PC12, C5 PB7, C6 VBAT, C7 NRST, C8 PC13, D1 PC9, D2 PA9, D3 PA10, D4 PA13, D5 PB8, D6 PC2, D7 PD1, D8 PD0, E1 PC6, E2 PC7, E3 PC8, E4 PA8, E5 PA5, E6 PA1, E7 VSSA, E8 PC0, F1 PB15, F2 PB14, F3 PB11, F4 PB1, F5 VSS, F6 PA0, F7 VREF+, F8 PC1, G1 PB13, G2 PB12, G3 PB10, G4 PA7, G5 PA6, G6 VDD, G7 PA3, G8 VDDA, H1 VDD, H2 VSS, H3 PB2, H4 PB0, H5 PC5, H6 PC4, H7 PA4, H8 PA2

## STM32F103R_F-G_Tx
designator *  value STM32F103R_F-G_Tx  Reference: U
STMicroelectronics Arm Cortex-M3 MCU, 768-1024KB flash, 96KB RAM, 72 MHz, 2.0-3.6V, 51 GPIO, LQFP64; ki_keywords: Arm Cortex-M3 STM32F1 STM32F103; ki_fp_filters: LQFP*10x10mm*P0.5mm*; Footprint: Package_QFP:LQFP-64_10x10mm_P0.5mm; Datasheet: https://www.st.com/resource/en/datasheet/stm32f103rf.pdf; Description_: STMicroelectronics Arm Cortex-M3 MCU, 768-1024KB flash, 96KB RAM, 72 MHz, 2.0-3.6V, 51 GPIO, LQFP64
pins: 1 VBAT, 2 PC13, 3 PC14, 4 PC15, 5 PD0, 6 PD1, 7 NRST, 8 PC0, 9 PC1, 10 PC2, 11 PC3, 12 VSSA, 13 VDDA, 14 PA0, 15 PA1, 16 PA2, 17 PA3, 18 VSS, 19 VDD, 20 PA4, 21 PA5, 22 PA6, 23 PA7, 24 PC4, 25 PC5, 26 PB0, 27 PB1, 28 PB2, 29 PB10, 30 PB11, 31 VSS, 32 VDD, 33 PB12, 34 PB13, 35 PB14, 36 PB15, 37 PC6, 38 PC7, 39 PC8, 40 PC9, 41 PA8, 42 PA9, 43 PA10, 44 PA11, 45 PA12, 46 PA13, 47 VSS, 48 VDD, 49 PA14, 50 PA15, 51 PC10, 52 PC11, 53 PC12, 54 PD2, 55 PB3, 56 PB4, 57 PB5, 58 PB6, 59 PB7, 60 BOOT0, 61 PB8, 62 PB9, 63 VSS, 64 VDD

## STM32F103RBHx
designator *  value STM32F103RBHx  Reference: U
STMicroelectronics Arm Cortex-M3 MCU, 128KB flash, 20KB RAM, 72 MHz, 2.0-3.6V, 50 GPIO, TFBGA64; ki_keywords: Arm Cortex-M3 STM32F1 STM32F103; ki_fp_filters: TFBGA*5x5mm*Layout8x8*P0.5mm*; Footprint: Package_BGA:TFBGA-64_5x5mm_Layout8x8_P0.5mm; Datasheet: https://www.st.com/resource/en/datasheet/stm32f103rb.pdf; Description_: STMicroelectronics Arm Cortex-M3 MCU, 128KB flash, 20KB RAM, 72 MHz, 2.0-3.6V, 50 GPIO, TFBGA64
pins: A1 PC14, A2 PC13, A3 PB9, A4 PB4, A5 PB3, A6 PA15, A7 PA14, A8 PA13, B1 PC15, B2 VBAT, B3 PB8, B4 BOOT0, B5 PD2, B6 PC11, B7 PC10, B8 PA12, C1 PD0, C2 VSS, C3 PB7, C4 PB5, C5 PC12, C6 PA10, C7 PA9, C8 PA11, D1 PD1, D2 VDD, D3 PB6, D4 VSS, D5 VSS, D6 VSS, D7 PA8, D8 PC9, E1 NRST, E2 PC1, E3 PC0, E4 VDD, E5 VDD, E6 VDD, E7 PC7, E8 PC8, F1 VSSA, F2 PC2, F3 PA2, F4 PA5, F5 PB0, F6 PC6, F7 PB15, F8 PB14, G1 VREF+, G2 PA0, G3 PA3, G4 PA6, G5 PB1, G6 PB2, G7 PB10, G8 PB13, H1 VDDA, H2 PA1, H3 PA4, H4 PA7, H5 PC4, H6 PC5, H7 PB11, H8 PB12

## STM32F103RBTx
designator *  value STM32F103RBTx  Reference: U
STMicroelectronics Arm Cortex-M3 MCU, 128KB flash, 20KB RAM, 72 MHz, 2.0-3.6V, 51 GPIO, LQFP64; ki_keywords: Arm Cortex-M3 STM32F1 STM32F103; ki_fp_filters: LQFP*10x10mm*P0.5mm*; Footprint: Package_QFP:LQFP-64_10x10mm_P0.5mm; Datasheet: https://www.st.com/resource/en/datasheet/stm32f103rb.pdf; Description_: STMicroelectronics Arm Cortex-M3 MCU, 128KB flash, 20KB RAM, 72 MHz, 2.0-3.6V, 51 GPIO, LQFP64
pins: 1 VBAT, 2 PC13, 3 PC14, 4 PC15, 5 PD0, 6 PD1, 7 NRST, 8 PC0, 9 PC1, 10 PC2, 11 PC3, 12 VSSA, 13 VDDA, 14 PA0, 15 PA1, 16 PA2, 17 PA3, 18 VSS, 19 VDD, 20 PA4, 21 PA5, 22 PA6, 23 PA7, 24 PC4, 25 PC5, 26 PB0, 27 PB1, 28 PB2, 29 PB10, 30 PB11, 31 VSS, 32 VDD, 33 PB12, 34 PB13, 35 PB14, 36 PB15, 37 PC6, 38 PC7, 39 PC8, 40 PC9, 41 PA8, 42 PA9, 43 PA10, 44 PA11, 45 PA12, 46 PA13, 47 VSS, 48 VDD, 49 PA14, 50 PA15, 51 PC10, 52 PC11, 53 PC12, 54 PD2, 55 PB3, 56 PB4, 57 PB5, 58 PB6, 59 PB7, 60 BOOT0, 61 PB8, 62 PB9, 63 VSS, 64 VDD

## STM32F103RCTx
designator *  value STM32F103RCTx  Reference: U
STMicroelectronics Arm Cortex-M3 MCU, 256KB flash, 48KB RAM, 72 MHz, 2.0-3.6V, 51 GPIO, LQFP64; ki_keywords: Arm Cortex-M3 STM32F1 STM32F103; ki_fp_filters: LQFP*10x10mm*P0.5mm*; Footprint: Package_QFP:LQFP-64_10x10mm_P0.5mm; Datasheet: https://www.st.com/resource/en/datasheet/stm32f103rc.pdf; Description_: STMicroelectronics Arm Cortex-M3 MCU, 256KB flash, 48KB RAM, 72 MHz, 2.0-3.6V, 51 GPIO, LQFP64
pins: 1 VBAT, 2 PC13, 3 PC14, 4 PC15, 5 PD0, 6 PD1, 7 NRST, 8 PC0, 9 PC1, 10 PC2, 11 PC3, 12 VSSA, 13 VDDA, 14 PA0, 15 PA1, 16 PA2, 17 PA3, 18 VSS, 19 VDD, 20 PA4, 21 PA5, 22 PA6, 23 PA7, 24 PC4, 25 PC5, 26 PB0, 27 PB1, 28 PB2, 29 PB10, 30 PB11, 31 VSS, 32 VDD, 33 PB12, 34 PB13, 35 PB14, 36 PB15, 37 PC6, 38 PC7, 39 PC8, 40 PC9, 41 PA8, 42 PA9, 43 PA10, 44 PA11, 45 PA12, 46 PA13, 47 VSS, 48 VDD, 49 PA14, 50 PA15, 51 PC10, 52 PC11, 53 PC12, 54 PD2, 55 PB3, 56 PB4, 57 PB5, 58 PB6, 59 PB7, 60 BOOT0, 61 PB8, 62 PB9, 63 VSS, 64 VDD

## STM32F103RCYx
designator *  value STM32F103RCYx  Reference: U
STMicroelectronics Arm Cortex-M3 MCU, 256KB flash, 48KB RAM, 72 MHz, 2.0-3.6V, 50 GPIO, WLCSP64; ki_keywords: Arm Cortex-M3 STM32F1 STM32F103; ki_fp_filters: ST*WLCSP*Die414*; Footprint: Package_CSP:ST_WLCSP-64_Die414; Datasheet: https://www.st.com/resource/en/datasheet/stm32f103rc.pdf; Description_: STMicroelectronics Arm Cortex-M3 MCU, 256KB flash, 48KB RAM, 72 MHz, 2.0-3.6V, 50 GPIO, WLCSP64
pins: A1 VDD, A2 PC10, A3 PD2, A4 PB3, A5 PB5, A6 BOOT0, A7 VSS, A8 VDD, B1 VSS, B2 PA14, B3 PC11, B4 PB4, B5 PB6, B6 PB9, B7 PC15, B8 PC14, C1 PA11, C2 PA12, C3 PA15, C4 PC12, C5 PB7, C6 VBAT, C7 NRST, C8 PC13, D1 PC9, D2 PA9, D3 PA10, D4 PA13, D5 PB8, D6 PC2, D7 PD1, D8 PD0, E1 PC6, E2 PC7, E3 PC8, E4 PA8, E5 PA5, E6 PA1, E7 VSSA, E8 PC0, F1 PB15, F2 PB14, F3 PB11, F4 PB1, F5 VSS, F6 PA0, F7 VREF+, F8 PC1, G1 PB13, G2 PB12, G3 PB10, G4 PA7, G5 PA6, G6 VDD, G7 PA3, G8 VDDA, H1 VDD, H2 VSS, H3 PB2, H4 PB0, H5 PC5, H6 PC4, H7 PA4, H8 PA2

## STM32F103RDTx
designator *  value STM32F103RDTx  Reference: U
STMicroelectronics Arm Cortex-M3 MCU, 384KB flash, 64KB RAM, 72 MHz, 2.0-3.6V, 51 GPIO, LQFP64; ki_keywords: Arm Cortex-M3 STM32F1 STM32F103; ki_fp_filters: LQFP*10x10mm*P0.5mm*; Footprint: Package_QFP:LQFP-64_10x10mm_P0.5mm; Datasheet: https://www.st.com/resource/en/datasheet/stm32f103rd.pdf; Description_: STMicroelectronics Arm Cortex-M3 MCU, 384KB flash, 64KB RAM, 72 MHz, 2.0-3.6V, 51 GPIO, LQFP64
pins: 1 VBAT, 2 PC13, 3 PC14, 4 PC15, 5 PD0, 6 PD1, 7 NRST, 8 PC0, 9 PC1, 10 PC2, 11 PC3, 12 VSSA, 13 VDDA, 14 PA0, 15 PA1, 16 PA2, 17 PA3, 18 VSS, 19 VDD, 20 PA4, 21 PA5, 22 PA6, 23 PA7, 24 PC4, 25 PC5, 26 PB0, 27 PB1, 28 PB2, 29 PB10, 30 PB11, 31 VSS, 32 VDD, 33 PB12, 34 PB13, 35 PB14, 36 PB15, 37 PC6, 38 PC7, 39 PC8, 40 PC9, 41 PA8, 42 PA9, 43 PA10, 44 PA11, 45 PA12, 46 PA13, 47 VSS, 48 VDD, 49 PA14, 50 PA15, 51 PC10, 52 PC11, 53 PC12, 54 PD2, 55 PB3, 56 PB4, 57 PB5, 58 PB6, 59 PB7, 60 BOOT0, 61 PB8, 62 PB9, 63 VSS, 64 VDD

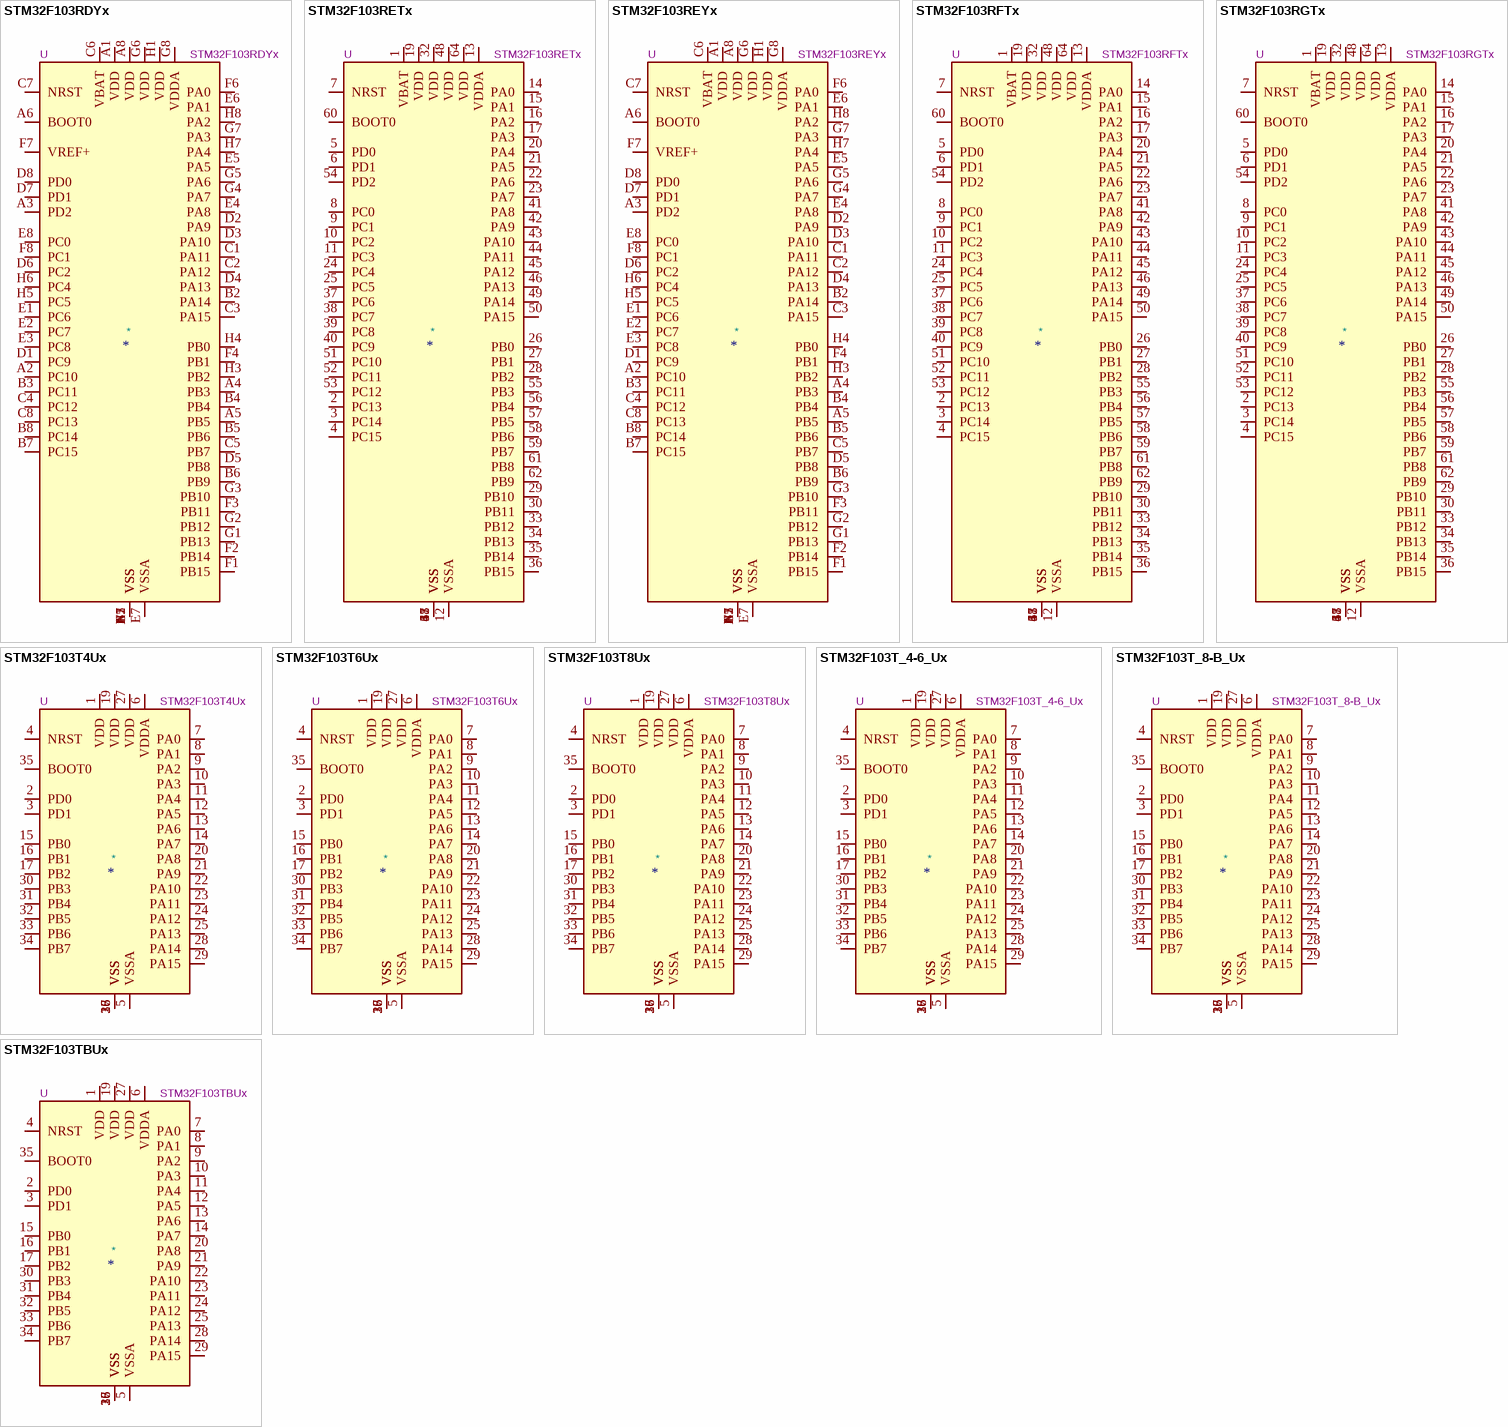
[diagram p17: symbols STM32F103RDYx to STM32F103TBUx]

## STM32F103RDYx
designator *  value STM32F103RDYx  Reference: U
STMicroelectronics Arm Cortex-M3 MCU, 384KB flash, 64KB RAM, 72 MHz, 2.0-3.6V, 50 GPIO, WLCSP64; ki_keywords: Arm Cortex-M3 STM32F1 STM32F103; ki_fp_filters: ST*WLCSP*Die414*; Footprint: Package_CSP:ST_WLCSP-64_Die414; Datasheet: https://www.st.com/resource/en/datasheet/stm32f103rd.pdf; Description_: STMicroelectronics Arm Cortex-M3 MCU, 384KB flash, 64KB RAM, 72 MHz, 2.0-3.6V, 50 GPIO, WLCSP64
pins: A1 VDD, A2 PC10, A3 PD2, A4 PB3, A5 PB5, A6 BOOT0, A7 VSS, A8 VDD, B1 VSS, B2 PA14, B3 PC11, B4 PB4, B5 PB6, B6 PB9, B7 PC15, B8 PC14, C1 PA11, C2 PA12, C3 PA15, C4 PC12, C5 PB7, C6 VBAT, C7 NRST, C8 PC13, D1 PC9, D2 PA9, D3 PA10, D4 PA13, D5 PB8, D6 PC2, D7 PD1, D8 PD0, E1 PC6, E2 PC7, E3 PC8, E4 PA8, E5 PA5, E6 PA1, E7 VSSA, E8 PC0, F1 PB15, F2 PB14, F3 PB11, F4 PB1, F5 VSS, F6 PA0, F7 VREF+, F8 PC1, G1 PB13, G2 PB12, G3 PB10, G4 PA7, G5 PA6, G6 VDD, G7 PA3, G8 VDDA, H1 VDD, H2 VSS, H3 PB2, H4 PB0, H5 PC5, H6 PC4, H7 PA4, H8 PA2

## STM32F103RETx
designator *  value STM32F103RETx  Reference: U
STMicroelectronics Arm Cortex-M3 MCU, 512KB flash, 64KB RAM, 72 MHz, 2.0-3.6V, 51 GPIO, LQFP64; ki_keywords: Arm Cortex-M3 STM32F1 STM32F103; ki_fp_filters: LQFP*10x10mm*P0.5mm*; Footprint: Package_QFP:LQFP-64_10x10mm_P0.5mm; Datasheet: https://www.st.com/resource/en/datasheet/stm32f103re.pdf; Description_: STMicroelectronics Arm Cortex-M3 MCU, 512KB flash, 64KB RAM, 72 MHz, 2.0-3.6V, 51 GPIO, LQFP64
pins: 1 VBAT, 2 PC13, 3 PC14, 4 PC15, 5 PD0, 6 PD1, 7 NRST, 8 PC0, 9 PC1, 10 PC2, 11 PC3, 12 VSSA, 13 VDDA, 14 PA0, 15 PA1, 16 PA2, 17 PA3, 18 VSS, 19 VDD, 20 PA4, 21 PA5, 22 PA6, 23 PA7, 24 PC4, 25 PC5, 26 PB0, 27 PB1, 28 PB2, 29 PB10, 30 PB11, 31 VSS, 32 VDD, 33 PB12, 34 PB13, 35 PB14, 36 PB15, 37 PC6, 38 PC7, 39 PC8, 40 PC9, 41 PA8, 42 PA9, 43 PA10, 44 PA11, 45 PA12, 46 PA13, 47 VSS, 48 VDD, 49 PA14, 50 PA15, 51 PC10, 52 PC11, 53 PC12, 54 PD2, 55 PB3, 56 PB4, 57 PB5, 58 PB6, 59 PB7, 60 BOOT0, 61 PB8, 62 PB9, 63 VSS, 64 VDD

## STM32F103REYx
designator *  value STM32F103REYx  Reference: U
STMicroelectronics Arm Cortex-M3 MCU, 512KB flash, 64KB RAM, 72 MHz, 2.0-3.6V, 50 GPIO, WLCSP64; ki_keywords: Arm Cortex-M3 STM32F1 STM32F103; ki_fp_filters: ST*WLCSP*Die414*; Footprint: Package_CSP:ST_WLCSP-64_Die414; Datasheet: https://www.st.com/resource/en/datasheet/stm32f103re.pdf; Description_: STMicroelectronics Arm Cortex-M3 MCU, 512KB flash, 64KB RAM, 72 MHz, 2.0-3.6V, 50 GPIO, WLCSP64
pins: A1 VDD, A2 PC10, A3 PD2, A4 PB3, A5 PB5, A6 BOOT0, A7 VSS, A8 VDD, B1 VSS, B2 PA14, B3 PC11, B4 PB4, B5 PB6, B6 PB9, B7 PC15, B8 PC14, C1 PA11, C2 PA12, C3 PA15, C4 PC12, C5 PB7, C6 VBAT, C7 NRST, C8 PC13, D1 PC9, D2 PA9, D3 PA10, D4 PA13, D5 PB8, D6 PC2, D7 PD1, D8 PD0, E1 PC6, E2 PC7, E3 PC8, E4 PA8, E5 PA5, E6 PA1, E7 VSSA, E8 PC0, F1 PB15, F2 PB14, F3 PB11, F4 PB1, F5 VSS, F6 PA0, F7 VREF+, F8 PC1, G1 PB13, G2 PB12, G3 PB10, G4 PA7, G5 PA6, G6 VDD, G7 PA3, G8 VDDA, H1 VDD, H2 VSS, H3 PB2, H4 PB0, H5 PC5, H6 PC4, H7 PA4, H8 PA2

## STM32F103RFTx
designator *  value STM32F103RFTx  Reference: U
STMicroelectronics Arm Cortex-M3 MCU, 768KB flash, 96KB RAM, 72 MHz, 2.0-3.6V, 51 GPIO, LQFP64; ki_keywords: Arm Cortex-M3 STM32F1 STM32F103; ki_fp_filters: LQFP*10x10mm*P0.5mm*; Footprint: Package_QFP:LQFP-64_10x10mm_P0.5mm; Datasheet: https://www.st.com/resource/en/datasheet/stm32f103rf.pdf; Description_: STMicroelectronics Arm Cortex-M3 MCU, 768KB flash, 96KB RAM, 72 MHz, 2.0-3.6V, 51 GPIO, LQFP64
pins: 1 VBAT, 2 PC13, 3 PC14, 4 PC15, 5 PD0, 6 PD1, 7 NRST, 8 PC0, 9 PC1, 10 PC2, 11 PC3, 12 VSSA, 13 VDDA, 14 PA0, 15 PA1, 16 PA2, 17 PA3, 18 VSS, 19 VDD, 20 PA4, 21 PA5, 22 PA6, 23 PA7, 24 PC4, 25 PC5, 26 PB0, 27 PB1, 28 PB2, 29 PB10, 30 PB11, 31 VSS, 32 VDD, 33 PB12, 34 PB13, 35 PB14, 36 PB15, 37 PC6, 38 PC7, 39 PC8, 40 PC9, 41 PA8, 42 PA9, 43 PA10, 44 PA11, 45 PA12, 46 PA13, 47 VSS, 48 VDD, 49 PA14, 50 PA15, 51 PC10, 52 PC11, 53 PC12, 54 PD2, 55 PB3, 56 PB4, 57 PB5, 58 PB6, 59 PB7, 60 BOOT0, 61 PB8, 62 PB9, 63 VSS, 64 VDD

## STM32F103RGTx
designator *  value STM32F103RGTx  Reference: U
STMicroelectronics Arm Cortex-M3 MCU, 1024KB flash, 96KB RAM, 72 MHz, 2.0-3.6V, 51 GPIO, LQFP64; ki_keywords: Arm Cortex-M3 STM32F1 STM32F103; ki_fp_filters: LQFP*10x10mm*P0.5mm*; Footprint: Package_QFP:LQFP-64_10x10mm_P0.5mm; Datasheet: https://www.st.com/resource/en/datasheet/stm32f103rg.pdf; Description_: STMicroelectronics Arm Cortex-M3 MCU, 1024KB flash, 96KB RAM, 72 MHz, 2.0-3.6V, 51 GPIO, LQFP64
pins: 1 VBAT, 2 PC13, 3 PC14, 4 PC15, 5 PD0, 6 PD1, 7 NRST, 8 PC0, 9 PC1, 10 PC2, 11 PC3, 12 VSSA, 13 VDDA, 14 PA0, 15 PA1, 16 PA2, 17 PA3, 18 VSS, 19 VDD, 20 PA4, 21 PA5, 22 PA6, 23 PA7, 24 PC4, 25 PC5, 26 PB0, 27 PB1, 28 PB2, 29 PB10, 30 PB11, 31 VSS, 32 VDD, 33 PB12, 34 PB13, 35 PB14, 36 PB15, 37 PC6, 38 PC7, 39 PC8, 40 PC9, 41 PA8, 42 PA9, 43 PA10, 44 PA11, 45 PA12, 46 PA13, 47 VSS, 48 VDD, 49 PA14, 50 PA15, 51 PC10, 52 PC11, 53 PC12, 54 PD2, 55 PB3, 56 PB4, 57 PB5, 58 PB6, 59 PB7, 60 BOOT0, 61 PB8, 62 PB9, 63 VSS, 64 VDD

## STM32F103T4Ux
designator *  value STM32F103T4Ux  Reference: U
STMicroelectronics Arm Cortex-M3 MCU, 16KB flash, 6KB RAM, 72 MHz, 2.0-3.6V, 26 GPIO, VFQFPN36; ki_keywords: Arm Cortex-M3 STM32F1 STM32F103; ki_fp_filters: QFN*1EP*6x6mm*P0.5mm*; Footprint: Package_DFN_QFN:QFN-36-1EP_6x6mm_P0.5mm_EP4.1x4.1mm; Datasheet: https://www.st.com/resource/en/datasheet/stm32f103t4.pdf; Description_: STMicroelectronics Arm Cortex-M3 MCU, 16KB flash, 6KB RAM, 72 MHz, 2.0-3.6V, 26 GPIO, VFQFPN36
pins: 1 VDD, 2 PD0, 3 PD1, 4 NRST, 5 VSSA, 6 VDDA, 7 PA0, 8 PA1, 9 PA2, 10 PA3, 11 PA4, 12 PA5, 13 PA6, 14 PA7, 15 PB0, 16 PB1, 17 PB2, 18 VSS, 19 VDD, 20 PA8, 21 PA9, 22 PA10, 23 PA11, 24 PA12, 25 PA13, 26 VSS, 27 VDD, 28 PA14, 29 PA15, 30 PB3, 31 PB4, 32 PB5, 33 PB6, 34 PB7, 35 BOOT0, 36 VSS, 37 VSS

## STM32F103T6Ux
designator *  value STM32F103T6Ux  Reference: U
STMicroelectronics Arm Cortex-M3 MCU, 32KB flash, 10KB RAM, 72 MHz, 2.0-3.6V, 26 GPIO, VFQFPN36; ki_keywords: Arm Cortex-M3 STM32F1 STM32F103; ki_fp_filters: QFN*1EP*6x6mm*P0.5mm*; Footprint: Package_DFN_QFN:QFN-36-1EP_6x6mm_P0.5mm_EP4.1x4.1mm; Datasheet: https://www.st.com/resource/en/datasheet/stm32f103t6.pdf; Description_: STMicroelectronics Arm Cortex-M3 MCU, 32KB flash, 10KB RAM, 72 MHz, 2.0-3.6V, 26 GPIO, VFQFPN36
pins: 1 VDD, 2 PD0, 3 PD1, 4 NRST, 5 VSSA, 6 VDDA, 7 PA0, 8 PA1, 9 PA2, 10 PA3, 11 PA4, 12 PA5, 13 PA6, 14 PA7, 15 PB0, 16 PB1, 17 PB2, 18 VSS, 19 VDD, 20 PA8, 21 PA9, 22 PA10, 23 PA11, 24 PA12, 25 PA13, 26 VSS, 27 VDD, 28 PA14, 29 PA15, 30 PB3, 31 PB4, 32 PB5, 33 PB6, 34 PB7, 35 BOOT0, 36 VSS, 37 VSS

## STM32F103T8Ux
designator *  value STM32F103T8Ux  Reference: U
STMicroelectronics Arm Cortex-M3 MCU, 64KB flash, 20KB RAM, 72 MHz, 2.0-3.6V, 26 GPIO, VFQFPN36; ki_keywords: Arm Cortex-M3 STM32F1 STM32F103; ki_fp_filters: QFN*1EP*6x6mm*P0.5mm*; Footprint: Package_DFN_QFN:QFN-36-1EP_6x6mm_P0.5mm_EP4.1x4.1mm; Datasheet: https://www.st.com/resource/en/datasheet/stm32f103t8.pdf; Description_: STMicroelectronics Arm Cortex-M3 MCU, 64KB flash, 20KB RAM, 72 MHz, 2.0-3.6V, 26 GPIO, VFQFPN36
pins: 1 VDD, 2 PD0, 3 PD1, 4 NRST, 5 VSSA, 6 VDDA, 7 PA0, 8 PA1, 9 PA2, 10 PA3, 11 PA4, 12 PA5, 13 PA6, 14 PA7, 15 PB0, 16 PB1, 17 PB2, 18 VSS, 19 VDD, 20 PA8, 21 PA9, 22 PA10, 23 PA11, 24 PA12, 25 PA13, 26 VSS, 27 VDD, 28 PA14, 29 PA15, 30 PB3, 31 PB4, 32 PB5, 33 PB6, 34 PB7, 35 BOOT0, 36 VSS, 37 VSS

## STM32F103T_4-6_Ux
designator *  value STM32F103T_4-6_Ux  Reference: U
STMicroelectronics Arm Cortex-M3 MCU, 16-32KB flash, 6-10KB RAM, 72 MHz, 2.0-3.6V, 26 GPIO, VFQFPN36; ki_keywords: Arm Cortex-M3 STM32F1 STM32F103; ki_fp_filters: QFN*1EP*6x6mm*P0.5mm*; Footprint: Package_DFN_QFN:QFN-36-1EP_6x6mm_P0.5mm_EP4.1x4.1mm; Datasheet: https://www.st.com/resource/en/datasheet/stm32f103t4.pdf; Description_: STMicroelectronics Arm Cortex-M3 MCU, 16-32KB flash, 6-10KB RAM, 72 MHz, 2.0-3.6V, 26 GPIO, VFQFPN36
pins: 1 VDD, 2 PD0, 3 PD1, 4 NRST, 5 VSSA, 6 VDDA, 7 PA0, 8 PA1, 9 PA2, 10 PA3, 11 PA4, 12 PA5, 13 PA6, 14 PA7, 15 PB0, 16 PB1, 17 PB2, 18 VSS, 19 VDD, 20 PA8, 21 PA9, 22 PA10, 23 PA11, 24 PA12, 25 PA13, 26 VSS, 27 VDD, 28 PA14, 29 PA15, 30 PB3, 31 PB4, 32 PB5, 33 PB6, 34 PB7, 35 BOOT0, 36 VSS, 37 VSS

## STM32F103T_8-B_Ux
designator *  value STM32F103T_8-B_Ux  Reference: U
STMicroelectronics Arm Cortex-M3 MCU, 64-128KB flash, 20KB RAM, 72 MHz, 2.0-3.6V, 26 GPIO, VFQFPN36; ki_keywords: Arm Cortex-M3 STM32F1 STM32F103; ki_fp_filters: QFN*1EP*6x6mm*P0.5mm*; Footprint: Package_DFN_QFN:QFN-36-1EP_6x6mm_P0.5mm_EP4.1x4.1mm; Datasheet: https://www.st.com/resource/en/datasheet/stm32f103t8.pdf; Description_: STMicroelectronics Arm Cortex-M3 MCU, 64-128KB flash, 20KB RAM, 72 MHz, 2.0-3.6V, 26 GPIO, VFQFPN36
pins: 1 VDD, 2 PD0, 3 PD1, 4 NRST, 5 VSSA, 6 VDDA, 7 PA0, 8 PA1, 9 PA2, 10 PA3, 11 PA4, 12 PA5, 13 PA6, 14 PA7, 15 PB0, 16 PB1, 17 PB2, 18 VSS, 19 VDD, 20 PA8, 21 PA9, 22 PA10, 23 PA11, 24 PA12, 25 PA13, 26 VSS, 27 VDD, 28 PA14, 29 PA15, 30 PB3, 31 PB4, 32 PB5, 33 PB6, 34 PB7, 35 BOOT0, 36 VSS, 37 VSS

## STM32F103TBUx
designator *  value STM32F103TBUx  Reference: U
STMicroelectronics Arm Cortex-M3 MCU, 128KB flash, 20KB RAM, 72 MHz, 2.0-3.6V, 26 GPIO, VFQFPN36; ki_keywords: Arm Cortex-M3 STM32F1 STM32F103; ki_fp_filters: QFN*1EP*6x6mm*P0.5mm*; Footprint: Package_DFN_QFN:QFN-36-1EP_6x6mm_P0.5mm_EP4.1x4.1mm; Datasheet: https://www.st.com/resource/en/datasheet/stm32f103tb.pdf; Description_: STMicroelectronics Arm Cortex-M3 MCU, 128KB flash, 20KB RAM, 72 MHz, 2.0-3.6V, 26 GPIO, VFQFPN36
pins: 1 VDD, 2 PD0, 3 PD1, 4 NRST, 5 VSSA, 6 VDDA, 7 PA0, 8 PA1, 9 PA2, 10 PA3, 11 PA4, 12 PA5, 13 PA6, 14 PA7, 15 PB0, 16 PB1, 17 PB2, 18 VSS, 19 VDD, 20 PA8, 21 PA9, 22 PA10, 23 PA11, 24 PA12, 25 PA13, 26 VSS, 27 VDD, 28 PA14, 29 PA15, 30 PB3, 31 PB4, 32 PB5, 33 PB6, 34 PB7, 35 BOOT0, 36 VSS, 37 VSS

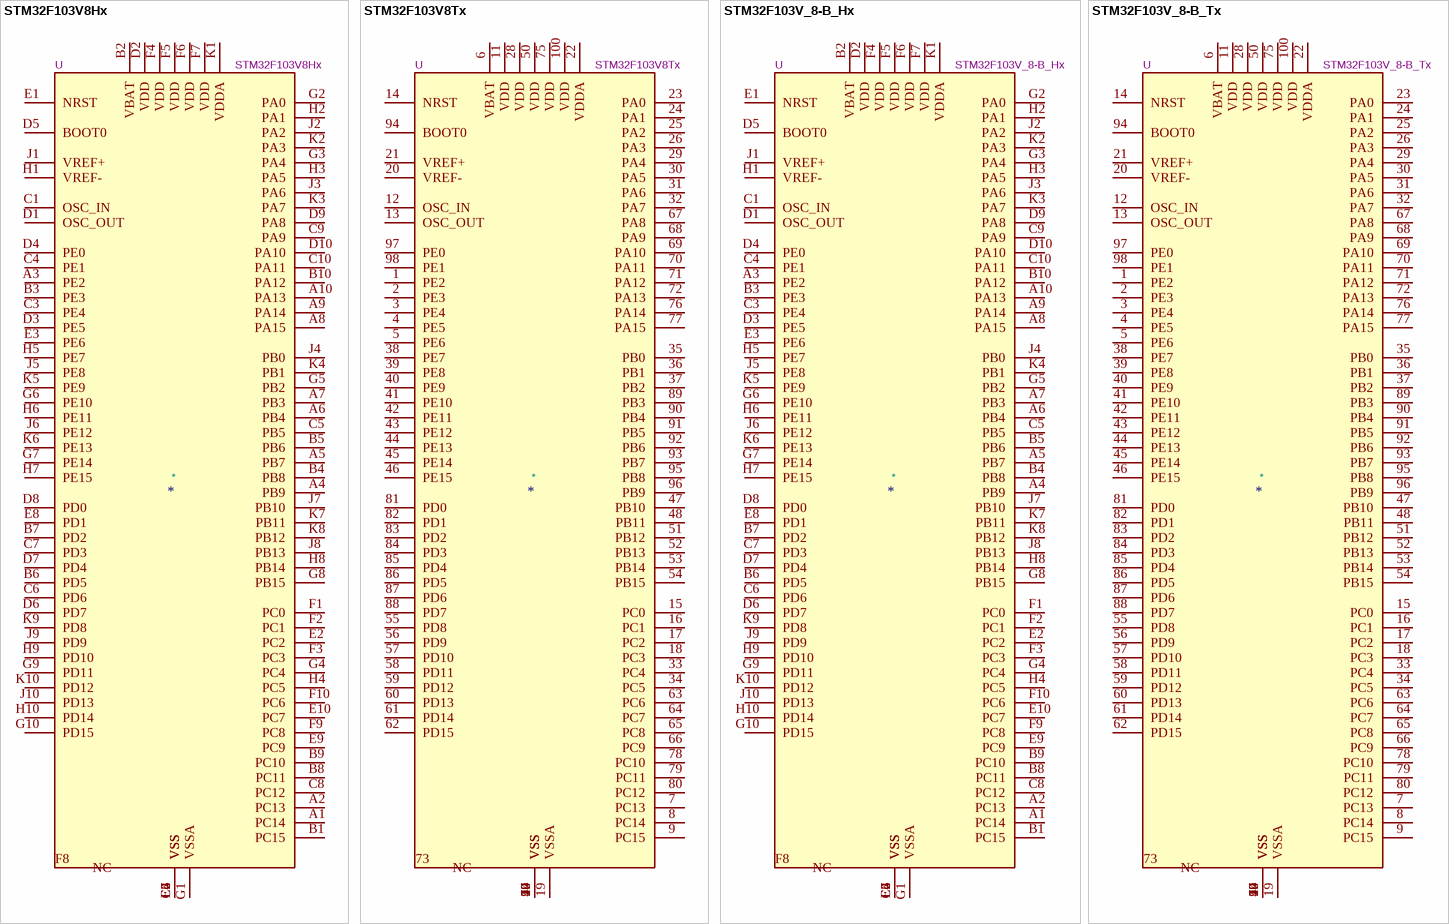
[diagram p18: symbols STM32F103V8Hx to STM32F103V_8-B_Tx]

## STM32F103V8Hx
designator *  value STM32F103V8Hx  Reference: U
STMicroelectronics Arm Cortex-M3 MCU, 64KB flash, 20KB RAM, 72 MHz, 2.0-3.6V, 80 GPIO, LFBGA100; ki_keywords: Arm Cortex-M3 STM32F1 STM32F103; ki_fp_filters: LFBGA*10x10mm*Layout10x10*P0.8mm*; Footprint: Package_BGA:LFBGA-100_10x10mm_Layout10x10_P0.8mm; Datasheet: https://www.st.com/resource/en/datasheet/stm32f103v8.pdf; Description_: STMicroelectronics Arm Cortex-M3 MCU, 64KB flash, 20KB RAM, 72 MHz, 2.0-3.6V, 80 GPIO, LFBGA100
pins: A1 PC14, A2 PC13, A3 PE2, A4 PB9, A5 PB7, A6 PB4, A7 PB3, A8 PA15, A9 PA14, A10 PA13, B1 PC15, B2 VBAT, B3 PE3, B4 PB8, B5 PB6, B6 PD5, B7 PD2, B8 PC11, B9 PC10, B10 PA12, C1 OSC_IN, C2 VSS, C3 PE4, C4 PE1, C5 PB5, C6 PD6, C7 PD3, C8 PC12, C9 PA9, C10 PA11, D1 OSC_OUT, D2 VDD, D3 PE5, D4 PE0, D5 BOOT0, D6 PD7, D7 PD4, D8 PD0, D9 PA8, D10 PA10, E1 NRST, E2 PC2, E3 PE6, E4 VSS, E5 VSS, E6 VSS, E7 VSS, E8 PD1, E9 PC9, E10 PC7, F1 PC0, F2 PC1, F3 PC3, F4 VDD, F5 VDD, F6 VDD, F7 VDD, F8 NC, F9 PC8, F10 PC6, G1 VSSA, G2 PA0, G3 PA4, G4 PC4, G5 PB2, G6 PE10, G7 PE14, G8 PB15, G9 PD11, G10 PD15, H1 VREF-, H2 PA1, H3 PA5, H4 PC5, H5 PE7, H6 PE11, H7 PE15, H8 PB14, H9 PD10, H10 PD14, J1 VREF+, J2 PA2, J3 PA6, J4 PB0, J5 PE8, J6 PE12, J7 PB10, J8 PB13, J9 PD9, J10 PD13, K1 VDDA, K2 PA3, K3 PA7, K4 PB1, K5 PE9, K6 PE13, K7 PB11, K8 PB12, K9 PD8, K10 PD12

## STM32F103V8Tx
designator *  value STM32F103V8Tx  Reference: U
STMicroelectronics Arm Cortex-M3 MCU, 64KB flash, 20KB RAM, 72 MHz, 2.0-3.6V, 80 GPIO, LQFP100; ki_keywords: Arm Cortex-M3 STM32F1 STM32F103; ki_fp_filters: LQFP*14x14mm*P0.5mm*; Footprint: Package_QFP:LQFP-100_14x14mm_P0.5mm; Datasheet: https://www.st.com/resource/en/datasheet/stm32f103v8.pdf; Description_: STMicroelectronics Arm Cortex-M3 MCU, 64KB flash, 20KB RAM, 72 MHz, 2.0-3.6V, 80 GPIO, LQFP100
pins: 1 PE2, 2 PE3, 3 PE4, 4 PE5, 5 PE6, 6 VBAT, 7 PC13, 8 PC14, 9 PC15, 10 VSS, 11 VDD, 12 OSC_IN, 13 OSC_OUT, 14 NRST, 15 PC0, 16 PC1, 17 PC2, 18 PC3, 19 VSSA, 20 VREF-, 21 VREF+, 22 VDDA, 23 PA0, 24 PA1, 25 PA2, 26 PA3, 27 VSS, 28 VDD, 29 PA4, 30 PA5, 31 PA6, 32 PA7, 33 PC4, 34 PC5, 35 PB0, 36 PB1, 37 PB2, 38 PE7, 39 PE8, 40 PE9, 41 PE10, 42 PE11, 43 PE12, 44 PE13, 45 PE14, 46 PE15, 47 PB10, 48 PB11, 49 VSS, 50 VDD, 51 PB12, 52 PB13, 53 PB14, 54 PB15, 55 PD8, 56 PD9, 57 PD10, 58 PD11, 59 PD12, 60 PD13, 61 PD14, 62 PD15, 63 PC6, 64 PC7, 65 PC8, 66 PC9, 67 PA8, 68 PA9, 69 PA10, 70 PA11, 71 PA12, 72 PA13, 73 NC, 74 VSS, 75 VDD, 76 PA14, 77 PA15, 78 PC10, 79 PC11, 80 PC12, 81 PD0, 82 PD1, 83 PD2, 84 PD3, 85 PD4, 86 PD5, 87 PD6, 88 PD7, 89 PB3, 90 PB4, 91 PB5, 92 PB6, 93 PB7, 94 BOOT0, 95 PB8, 96 PB9, 97 PE0, 98 PE1, 99 VSS, 100 VDD

## STM32F103V_8-B_Hx
designator *  value STM32F103V_8-B_Hx  Reference: U
STMicroelectronics Arm Cortex-M3 MCU, 64-128KB flash, 20KB RAM, 72 MHz, 2.0-3.6V, 80 GPIO, LFBGA100; ki_keywords: Arm Cortex-M3 STM32F1 STM32F103; ki_fp_filters: LFBGA*10x10mm*Layout10x10*P0.8mm*; Footprint: Package_BGA:LFBGA-100_10x10mm_Layout10x10_P0.8mm; Datasheet: https://www.st.com/resource/en/datasheet/stm32f103v8.pdf; Description_: STMicroelectronics Arm Cortex-M3 MCU, 64-128KB flash, 20KB RAM, 72 MHz, 2.0-3.6V, 80 GPIO, LFBGA100
pins: A1 PC14, A2 PC13, A3 PE2, A4 PB9, A5 PB7, A6 PB4, A7 PB3, A8 PA15, A9 PA14, A10 PA13, B1 PC15, B2 VBAT, B3 PE3, B4 PB8, B5 PB6, B6 PD5, B7 PD2, B8 PC11, B9 PC10, B10 PA12, C1 OSC_IN, C2 VSS, C3 PE4, C4 PE1, C5 PB5, C6 PD6, C7 PD3, C8 PC12, C9 PA9, C10 PA11, D1 OSC_OUT, D2 VDD, D3 PE5, D4 PE0, D5 BOOT0, D6 PD7, D7 PD4, D8 PD0, D9 PA8, D10 PA10, E1 NRST, E2 PC2, E3 PE6, E4 VSS, E5 VSS, E6 VSS, E7 VSS, E8 PD1, E9 PC9, E10 PC7, F1 PC0, F2 PC1, F3 PC3, F4 VDD, F5 VDD, F6 VDD, F7 VDD, F8 NC, F9 PC8, F10 PC6, G1 VSSA, G2 PA0, G3 PA4, G4 PC4, G5 PB2, G6 PE10, G7 PE14, G8 PB15, G9 PD11, G10 PD15, H1 VREF-, H2 PA1, H3 PA5, H4 PC5, H5 PE7, H6 PE11, H7 PE15, H8 PB14, H9 PD10, H10 PD14, J1 VREF+, J2 PA2, J3 PA6, J4 PB0, J5 PE8, J6 PE12, J7 PB10, J8 PB13, J9 PD9, J10 PD13, K1 VDDA, K2 PA3, K3 PA7, K4 PB1, K5 PE9, K6 PE13, K7 PB11, K8 PB12, K9 PD8, K10 PD12

## STM32F103V_8-B_Tx
designator *  value STM32F103V_8-B_Tx  Reference: U
STMicroelectronics Arm Cortex-M3 MCU, 64-128KB flash, 20KB RAM, 72 MHz, 2.0-3.6V, 80 GPIO, LQFP100; ki_keywords: Arm Cortex-M3 STM32F1 STM32F103; ki_fp_filters: LQFP*14x14mm*P0.5mm*; Footprint: Package_QFP:LQFP-100_14x14mm_P0.5mm; Datasheet: https://www.st.com/resource/en/datasheet/stm32f103v8.pdf; Description_: STMicroelectronics Arm Cortex-M3 MCU, 64-128KB flash, 20KB RAM, 72 MHz, 2.0-3.6V, 80 GPIO, LQFP100
pins: 1 PE2, 2 PE3, 3 PE4, 4 PE5, 5 PE6, 6 VBAT, 7 PC13, 8 PC14, 9 PC15, 10 VSS, 11 VDD, 12 OSC_IN, 13 OSC_OUT, 14 NRST, 15 PC0, 16 PC1, 17 PC2, 18 PC3, 19 VSSA, 20 VREF-, 21 VREF+, 22 VDDA, 23 PA0, 24 PA1, 25 PA2, 26 PA3, 27 VSS, 28 VDD, 29 PA4, 30 PA5, 31 PA6, 32 PA7, 33 PC4, 34 PC5, 35 PB0, 36 PB1, 37 PB2, 38 PE7, 39 PE8, 40 PE9, 41 PE10, 42 PE11, 43 PE12, 44 PE13, 45 PE14, 46 PE15, 47 PB10, 48 PB11, 49 VSS, 50 VDD, 51 PB12, 52 PB13, 53 PB14, 54 PB15, 55 PD8, 56 PD9, 57 PD10, 58 PD11, 59 PD12, 60 PD13, 61 PD14, 62 PD15, 63 PC6, 64 PC7, 65 PC8, 66 PC9, 67 PA8, 68 PA9, 69 PA10, 70 PA11, 71 PA12, 72 PA13, 73 NC, 74 VSS, 75 VDD, 76 PA14, 77 PA15, 78 PC10, 79 PC11, 80 PC12, 81 PD0, 82 PD1, 83 PD2, 84 PD3, 85 PD4, 86 PD5, 87 PD6, 88 PD7, 89 PB3, 90 PB4, 91 PB5, 92 PB6, 93 PB7, 94 BOOT0, 95 PB8, 96 PB9, 97 PE0, 98 PE1, 99 VSS, 100 VDD

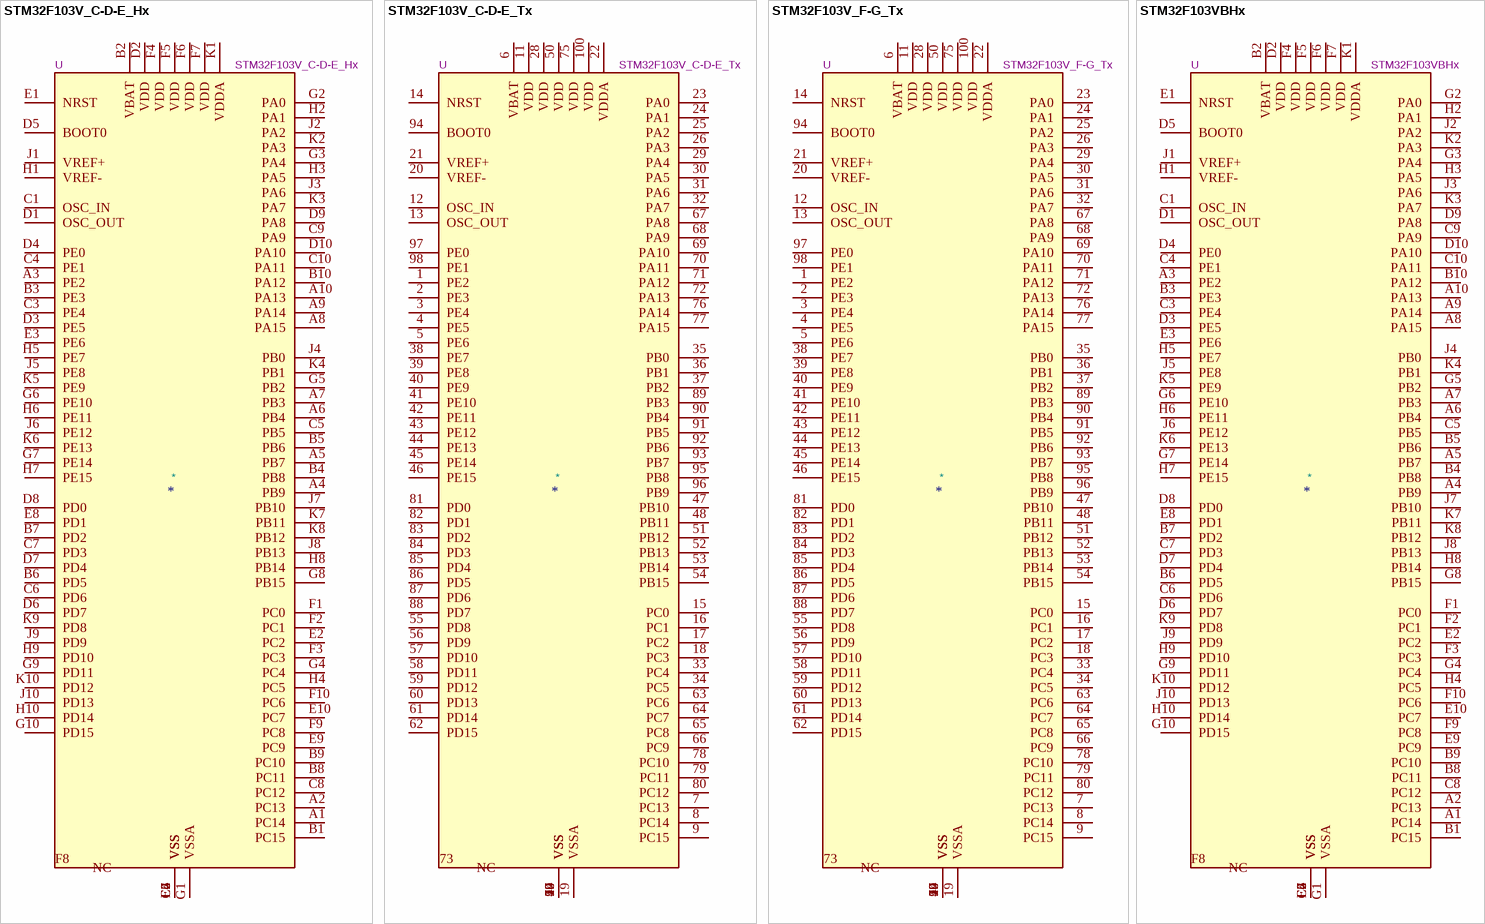
[diagram p19: symbols STM32F103V_C-D-E_Hx to STM32F103VBHx]

## STM32F103V_C-D-E_Hx
designator *  value STM32F103V_C-D-E_Hx  Reference: U
STMicroelectronics Arm Cortex-M3 MCU, 256-512KB flash, 48-64KB RAM, 72 MHz, 2.0-3.6V, 80 GPIO, LFBGA100; ki_keywords: Arm Cortex-M3 STM32F1 STM32F103; ki_fp_filters: LFBGA*10x10mm*Layout10x10*P0.8mm*; Footprint: Package_BGA:LFBGA-100_10x10mm_Layout10x10_P0.8mm; Datasheet: https://www.st.com/resource/en/datasheet/stm32f103vc.pdf; Description_: STMicroelectronics Arm Cortex-M3 MCU, 256-512KB flash, 48-64KB RAM, 72 MHz, 2.0-3.6V, 80 GPIO, LFBGA100
pins: A1 PC14, A2 PC13, A3 PE2, A4 PB9, A5 PB7, A6 PB4, A7 PB3, A8 PA15, A9 PA14, A10 PA13, B1 PC15, B2 VBAT, B3 PE3, B4 PB8, B5 PB6, B6 PD5, B7 PD2, B8 PC11, B9 PC10, B10 PA12, C1 OSC_IN, C2 VSS, C3 PE4, C4 PE1, C5 PB5, C6 PD6, C7 PD3, C8 PC12, C9 PA9, C10 PA11, D1 OSC_OUT, D2 VDD, D3 PE5, D4 PE0, D5 BOOT0, D6 PD7, D7 PD4, D8 PD0, D9 PA8, D10 PA10, E1 NRST, E2 PC2, E3 PE6, E4 VSS, E5 VSS, E6 VSS, E7 VSS, E8 PD1, E9 PC9, E10 PC7, F1 PC0, F2 PC1, F3 PC3, F4 VDD, F5 VDD, F6 VDD, F7 VDD, F8 NC, F9 PC8, F10 PC6, G1 VSSA, G2 PA0, G3 PA4, G4 PC4, G5 PB2, G6 PE10, G7 PE14, G8 PB15, G9 PD11, G10 PD15, H1 VREF-, H2 PA1, H3 PA5, H4 PC5, H5 PE7, H6 PE11, H7 PE15, H8 PB14, H9 PD10, H10 PD14, J1 VREF+, J2 PA2, J3 PA6, J4 PB0, J5 PE8, J6 PE12, J7 PB10, J8 PB13, J9 PD9, J10 PD13, K1 VDDA, K2 PA3, K3 PA7, K4 PB1, K5 PE9, K6 PE13, K7 PB11, K8 PB12, K9 PD8, K10 PD12

## STM32F103V_C-D-E_Tx
designator *  value STM32F103V_C-D-E_Tx  Reference: U
STMicroelectronics Arm Cortex-M3 MCU, 256-512KB flash, 48-64KB RAM, 72 MHz, 2.0-3.6V, 80 GPIO, LQFP100; ki_keywords: Arm Cortex-M3 STM32F1 STM32F103; ki_fp_filters: LQFP*14x14mm*P0.5mm*; Footprint: Package_QFP:LQFP-100_14x14mm_P0.5mm; Datasheet: https://www.st.com/resource/en/datasheet/stm32f103vc.pdf; Description_: STMicroelectronics Arm Cortex-M3 MCU, 256-512KB flash, 48-64KB RAM, 72 MHz, 2.0-3.6V, 80 GPIO, LQFP100
pins: 1 PE2, 2 PE3, 3 PE4, 4 PE5, 5 PE6, 6 VBAT, 7 PC13, 8 PC14, 9 PC15, 10 VSS, 11 VDD, 12 OSC_IN, 13 OSC_OUT, 14 NRST, 15 PC0, 16 PC1, 17 PC2, 18 PC3, 19 VSSA, 20 VREF-, 21 VREF+, 22 VDDA, 23 PA0, 24 PA1, 25 PA2, 26 PA3, 27 VSS, 28 VDD, 29 PA4, 30 PA5, 31 PA6, 32 PA7, 33 PC4, 34 PC5, 35 PB0, 36 PB1, 37 PB2, 38 PE7, 39 PE8, 40 PE9, 41 PE10, 42 PE11, 43 PE12, 44 PE13, 45 PE14, 46 PE15, 47 PB10, 48 PB11, 49 VSS, 50 VDD, 51 PB12, 52 PB13, 53 PB14, 54 PB15, 55 PD8, 56 PD9, 57 PD10, 58 PD11, 59 PD12, 60 PD13, 61 PD14, 62 PD15, 63 PC6, 64 PC7, 65 PC8, 66 PC9, 67 PA8, 68 PA9, 69 PA10, 70 PA11, 71 PA12, 72 PA13, 73 NC, 74 VSS, 75 VDD, 76 PA14, 77 PA15, 78 PC10, 79 PC11, 80 PC12, 81 PD0, 82 PD1, 83 PD2, 84 PD3, 85 PD4, 86 PD5, 87 PD6, 88 PD7, 89 PB3, 90 PB4, 91 PB5, 92 PB6, 93 PB7, 94 BOOT0, 95 PB8, 96 PB9, 97 PE0, 98 PE1, 99 VSS, 100 VDD

## STM32F103V_F-G_Tx
designator *  value STM32F103V_F-G_Tx  Reference: U
STMicroelectronics Arm Cortex-M3 MCU, 768-1024KB flash, 96KB RAM, 72 MHz, 2.0-3.6V, 80 GPIO, LQFP100; ki_keywords: Arm Cortex-M3 STM32F1 STM32F103; ki_fp_filters: LQFP*14x14mm*P0.5mm*; Footprint: Package_QFP:LQFP-100_14x14mm_P0.5mm; Datasheet: https://www.st.com/resource/en/datasheet/stm32f103vf.pdf; Description_: STMicroelectronics Arm Cortex-M3 MCU, 768-1024KB flash, 96KB RAM, 72 MHz, 2.0-3.6V, 80 GPIO, LQFP100
pins: 1 PE2, 2 PE3, 3 PE4, 4 PE5, 5 PE6, 6 VBAT, 7 PC13, 8 PC14, 9 PC15, 10 VSS, 11 VDD, 12 OSC_IN, 13 OSC_OUT, 14 NRST, 15 PC0, 16 PC1, 17 PC2, 18 PC3, 19 VSSA, 20 VREF-, 21 VREF+, 22 VDDA, 23 PA0, 24 PA1, 25 PA2, 26 PA3, 27 VSS, 28 VDD, 29 PA4, 30 PA5, 31 PA6, 32 PA7, 33 PC4, 34 PC5, 35 PB0, 36 PB1, 37 PB2, 38 PE7, 39 PE8, 40 PE9, 41 PE10, 42 PE11, 43 PE12, 44 PE13, 45 PE14, 46 PE15, 47 PB10, 48 PB11, 49 VSS, 50 VDD, 51 PB12, 52 PB13, 53 PB14, 54 PB15, 55 PD8, 56 PD9, 57 PD10, 58 PD11, 59 PD12, 60 PD13, 61 PD14, 62 PD15, 63 PC6, 64 PC7, 65 PC8, 66 PC9, 67 PA8, 68 PA9, 69 PA10, 70 PA11, 71 PA12, 72 PA13, 73 NC, 74 VSS, 75 VDD, 76 PA14, 77 PA15, 78 PC10, 79 PC11, 80 PC12, 81 PD0, 82 PD1, 83 PD2, 84 PD3, 85 PD4, 86 PD5, 87 PD6, 88 PD7, 89 PB3, 90 PB4, 91 PB5, 92 PB6, 93 PB7, 94 BOOT0, 95 PB8, 96 PB9, 97 PE0, 98 PE1, 99 VSS, 100 VDD

## STM32F103VBHx
designator *  value STM32F103VBHx  Reference: U
STMicroelectronics Arm Cortex-M3 MCU, 128KB flash, 20KB RAM, 72 MHz, 2.0-3.6V, 80 GPIO, LFBGA100; ki_keywords: Arm Cortex-M3 STM32F1 STM32F103; ki_fp_filters: LFBGA*10x10mm*Layout10x10*P0.8mm*; Footprint: Package_BGA:LFBGA-100_10x10mm_Layout10x10_P0.8mm; Datasheet: https://www.st.com/resource/en/datasheet/stm32f103vb.pdf; Description_: STMicroelectronics Arm Cortex-M3 MCU, 128KB flash, 20KB RAM, 72 MHz, 2.0-3.6V, 80 GPIO, LFBGA100
pins: A1 PC14, A2 PC13, A3 PE2, A4 PB9, A5 PB7, A6 PB4, A7 PB3, A8 PA15, A9 PA14, A10 PA13, B1 PC15, B2 VBAT, B3 PE3, B4 PB8, B5 PB6, B6 PD5, B7 PD2, B8 PC11, B9 PC10, B10 PA12, C1 OSC_IN, C2 VSS, C3 PE4, C4 PE1, C5 PB5, C6 PD6, C7 PD3, C8 PC12, C9 PA9, C10 PA11, D1 OSC_OUT, D2 VDD, D3 PE5, D4 PE0, D5 BOOT0, D6 PD7, D7 PD4, D8 PD0, D9 PA8, D10 PA10, E1 NRST, E2 PC2, E3 PE6, E4 VSS, E5 VSS, E6 VSS, E7 VSS, E8 PD1, E9 PC9, E10 PC7, F1 PC0, F2 PC1, F3 PC3, F4 VDD, F5 VDD, F6 VDD, F7 VDD, F8 NC, F9 PC8, F10 PC6, G1 VSSA, G2 PA0, G3 PA4, G4 PC4, G5 PB2, G6 PE10, G7 PE14, G8 PB15, G9 PD11, G10 PD15, H1 VREF-, H2 PA1, H3 PA5, H4 PC5, H5 PE7, H6 PE11, H7 PE15, H8 PB14, H9 PD10, H10 PD14, J1 VREF+, J2 PA2, J3 PA6, J4 PB0, J5 PE8, J6 PE12, J7 PB10, J8 PB13, J9 PD9, J10 PD13, K1 VDDA, K2 PA3, K3 PA7, K4 PB1, K5 PE9, K6 PE13, K7 PB11, K8 PB12, K9 PD8, K10 PD12

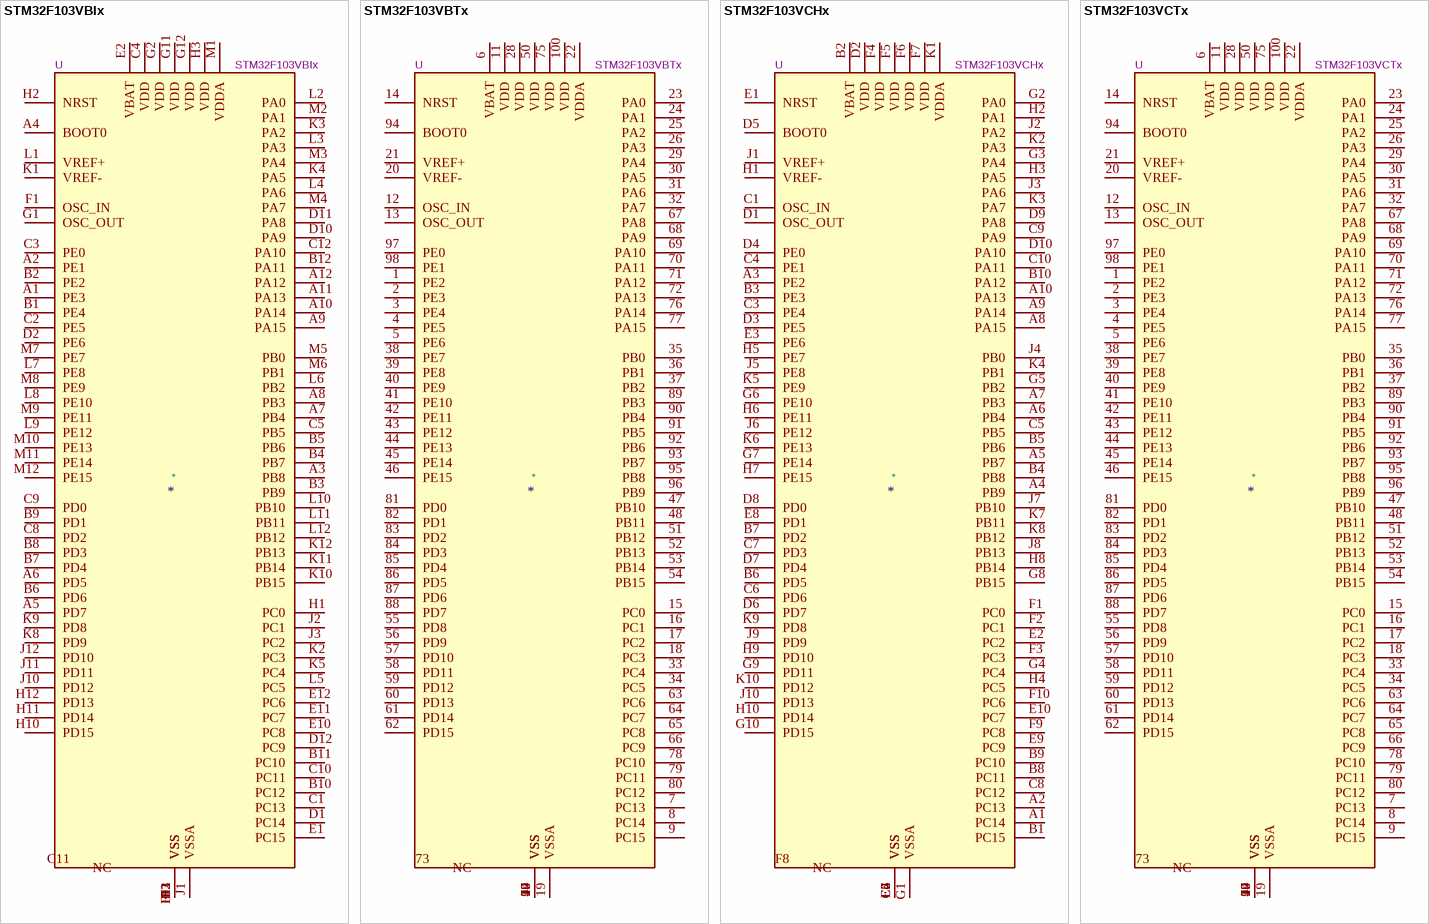
[diagram p20: symbols STM32F103VBIx to STM32F103VCTx]